# Altium integrated library altera.IntLib: 68 symbols (part 4 of 6)
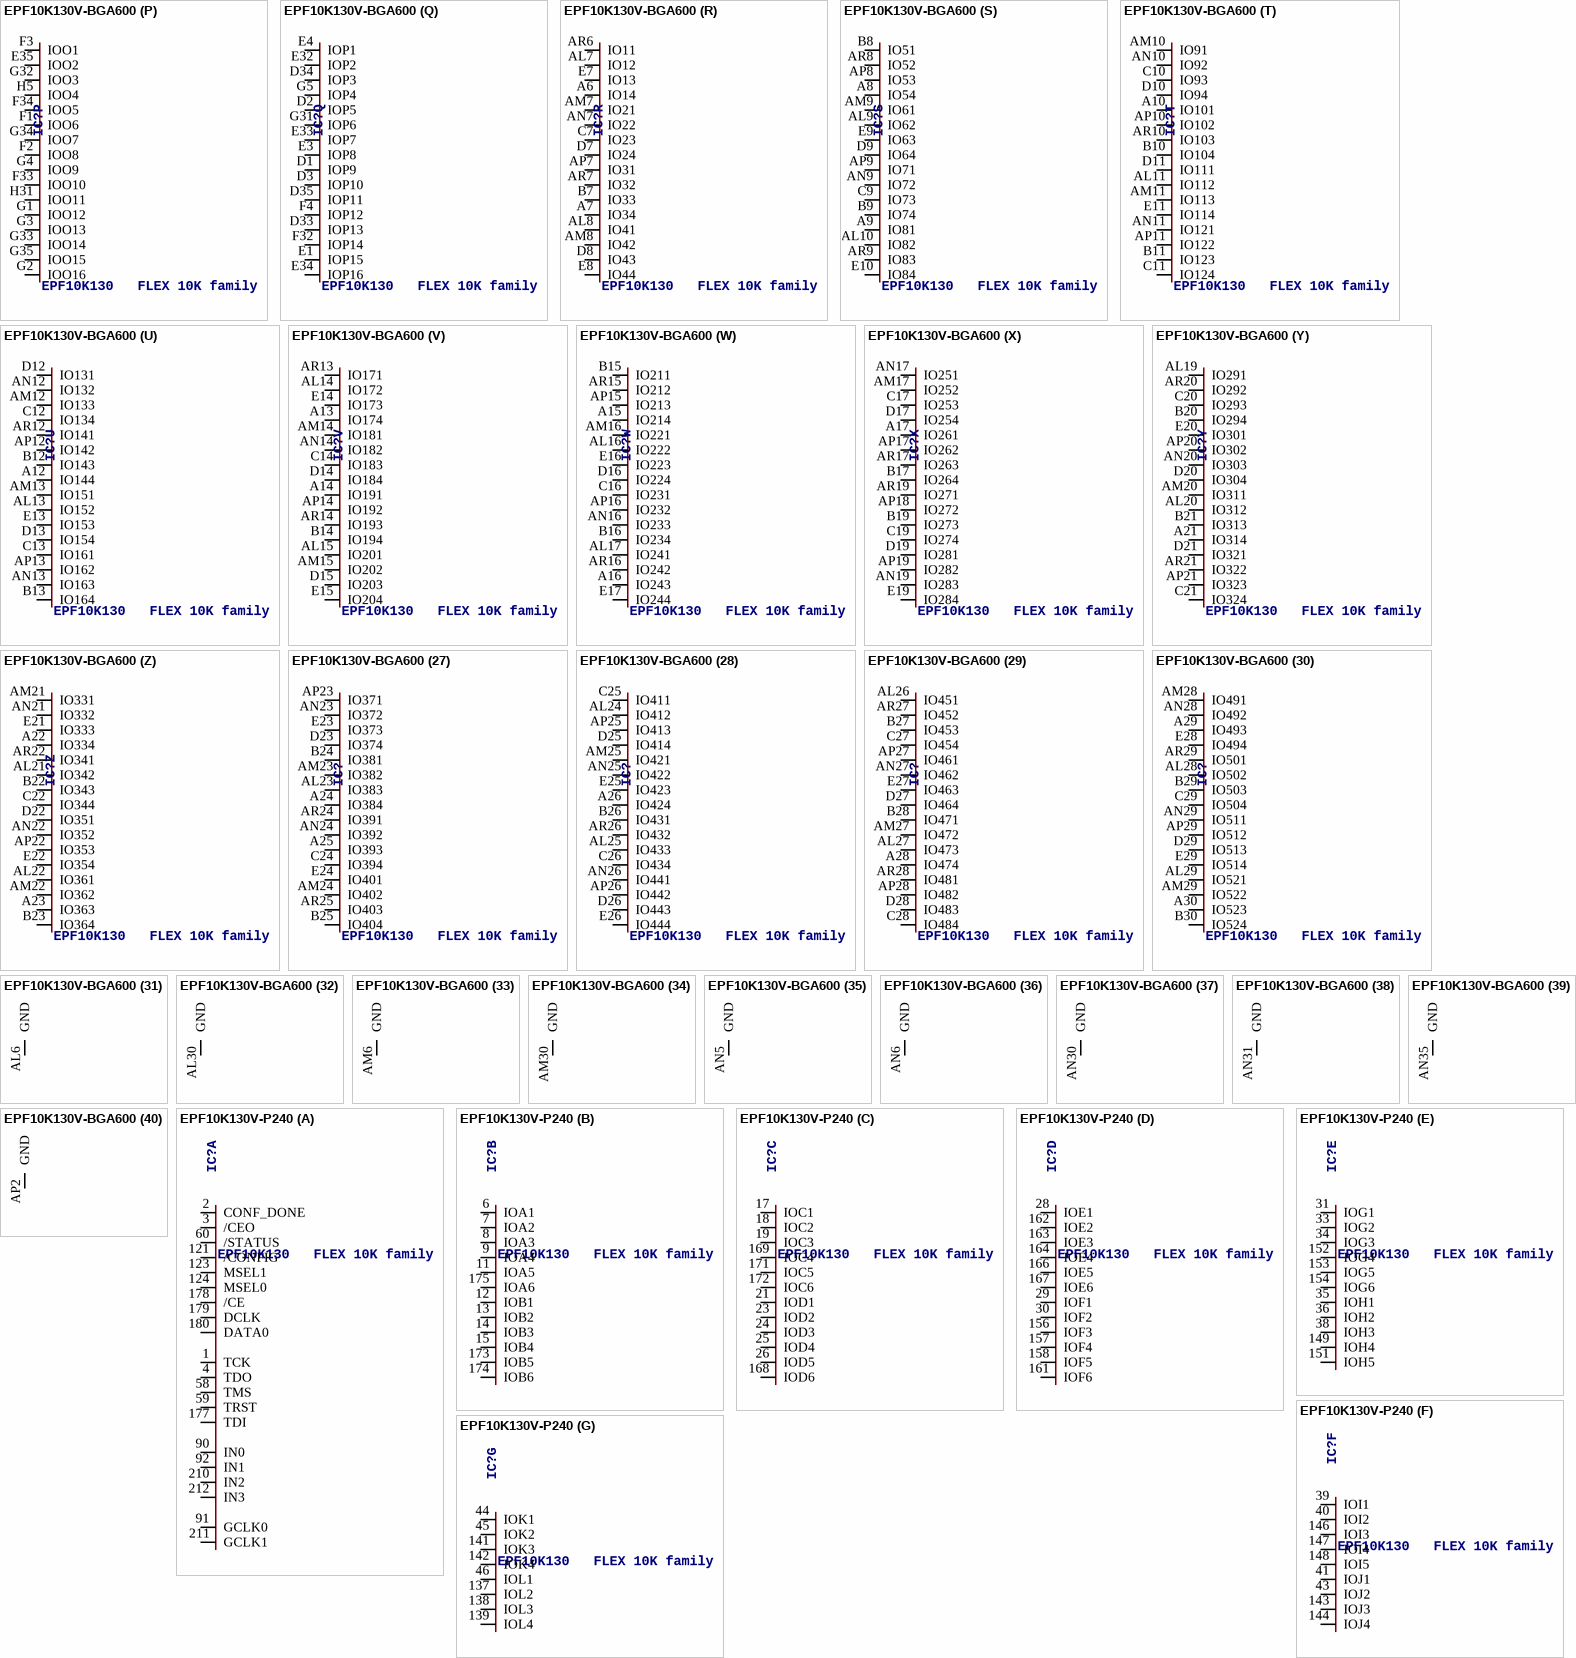
[diagram p60: symbols EPF10K130V-BGA600 to EPF10K130V-P240]

## EPF10K130V-BGA600
designator IC?, comment EPF10K130   FLEX 10K family
OC_FARNELL: unknown; OC_NEWARK: unknown
footprint BGA600
part A pins: AL18 GCLK1, AL31 TCK, AM4 DATA0, AM18 IN1, AM32 CONF_DONE, AN1 TDI, AN2 /CE, AN18 IN0, AN34 TDO, AP1 DCLK, AP35 /CEO, C1 MSEL1, C18 IN2, C34 TRST, C35 TMS, D4 /CONFIG, D18 IN3, D32 /STATUS, E18 GCLK0, F5 MSEL0
part B pins: AJ5 IOA11, AJ31 IOA8, AK4 IOA9, AK5 IOA2, AK32 IOA10, AL2 IOA1, AL4 IOA13, AL32 IOA3, AL33 IOA4, AL34 IOA14, AM1 IOA5, AM2 IOA15, AM3 IOA6, AM33 IOA16, AM34 IOA7, AM35 IOA12
part C pins: AH5 IOB13, AH31 IOB12, AJ2 IOB1, AJ3 IOB3, AJ4 IOB6, AJ32 IOB9, AJ33 IOB2, AJ34 IOB4, AJ35 IOB15, AK1 IOB11, AK2 IOB5, AK3 IOB16, AK33 IOB14, AK34 IOB10, AL1 IOB7, AL35 IOB8
part D pins: AG2 IOC1, AG3 IOC3, AG4 IOC11, AG31 IOC14, AG32 IOC2, AG33 IOC4, AG34 IOC15, AH1 IOC5, AH2 IOC13, AH3 IOC6, AH4 IOC16, AH32 IOC10, AH33 IOC7, AH34 IOC12, AH35 IOC8, AJ1 IOC9
part E pins: AE3 IOD10, AE5 IOD1, AE31 IOD11, AE32 IOD2, AE33 IOD9, AF1 IOD12, AF2 IOD3, AF3 IOD14, AF4 IOD5, AF5 IOD6, AF31 IOD7, AF33 IOD8, AF34 IOD13, AF35 IOD4, AG1 IOD16, AG35 IOD15
part F pins: AC5 IOE1, AC31 IOE6, AC32 IOE11, AD1 IOE3, AD2 IOE12, AD3 IOE4, AD4 IOE14, AD5 IOE7, AD31 IOE10, AD32 IOE13, AD33 IOE5, AD34 IOE2, AE1 IOE16, AE2 IOE8, AE34 IOE9, AE35 IOE15
part G pins: AB1 IOF9, AB2 IOF1, AB3 IOF12, AB4 IOF3, AB31 IOF13, AB32 IOF4, AB33 IOF10, AB34 IOF2, AB35 IOF11, AC1 IOF14, AC2 IOF5, AC3 IOF15, AC4 IOF6, AC33 IOF7, AC34 IOF16, AC35 IOF8
part H pins: AA1 IOG7, AA2 IOG14, AA3 IOG3, AA4 IOG16, AA5 IOG8, AA31 IOG9, AA32 IOG15, AA34 IOG4, AA35 IOG13, Y3 IOG6, Y4 IOG1, Y5 IOG12, Y31 IOG10, Y32 IOG11, Y33 IOG2, Y34 IOG5
part I pins: V4 IOH2, V5 IOH4, V31 IOH7, V33 IOH1, W1 IOH3, W2 IOH5, W3 IOH10, W4 IOH11, W5 IOH16, W31 IOH15, W32 IOH14, W33 IOH8, W34 IOH6, W35 IOH9, Y1 IOH12, Y35 IOH13
part J pins: T5 IOI2, T31 IOI1, U1 IOI3, U2 IOI6, U4 IOI9, U5 IOI7, U31 IOI11, U32 IOI13, U33 IOI10, U34 IOI5, U35 IOI4, V1 IOI8, V2 IOI14, V3 IOI15, V34 IOI16, V35 IOI12
part K pins: R2 IOJ9, R3 IOJ14, R4 IOJ11, R5 IOJ2, R31 IOJ12, R32 IOJ3, R33 IOJ10, R34 IOJ15, R35 IOJ8, T1 IOJ13, T2 IOJ4, T3 IOJ1, T4 IOJ5, T32 IOJ6, T33 IOJ16, T34 IOJ7
part L pins: N3 IOK8, N4 IOK7, N5 IOK2, N31 IOK9, N32 IOK10, N33 IOK1, P1 IOK11, P2 IOK5, P3 IOK13, P4 IOK4, P31 IOK15, P32 IOK6, P33 IOK16, P34 IOK3, P35 IOK12, R1 IOK14
part M pins: L1 IOL9, L2 IOL2, L34 IOL1, L35 IOL10, M1 IOL11, M3 IOL4, M4 IOL12, M5 IOL7, M31 IOL14, M32 IOL5, M33 IOL13, M34 IOL3, M35 IOL8, N1 IOL6, N2 IOL15, N35 IOL16
part N pins: J1 IOM8, J35 IOM10, K1 IOM4, K2 IOM11, K3 IOM2, K4 IOM7, K31 IOM1, K33 IOM9, K34 IOM12, K35 IOM3, L3 IOM13, L4 IOM14, L5 IOM6, L31 IOM5, L32 IOM15, L33 IOM16
part O pins: H2 ION8, H3 ION3, H4 ION1, H32 ION10, H33 ION2, H34 ION12, H35 ION4, J2 ION5, J3 ION13, J4 ION6, J5 ION9, J31 ION11, J32 ION14, J33 ION7, J34 ION16, K5 ION15
part P pins: E35 IOO2, F1 IOO6, F2 IOO8, F3 IOO1, F33 IOO10, F34 IOO5, G1 IOO12, G2 IOO16, G3 IOO13, G4 IOO9, G32 IOO3, G33 IOO14, G34 IOO7, G35 IOO15, H5 IOO4, H31 IOO11
part Q pins: D1 IOP9, D2 IOP5, D3 IOP10, D33 IOP13, D34 IOP3, D35 IOP11, E1 IOP15, E3 IOP8, E4 IOP1, E32 IOP2, E33 IOP7, E34 IOP16, F4 IOP12, F32 IOP14, G5 IOP4, G31 IOP6
part R pins: A6 IO14, A7 IO34, AL7 IO12, AL8 IO41, AM7 IO21, AM8 IO42, AN7 IO22, AP7 IO31, AR6 IO11, AR7 IO32, B7 IO33, C7 IO23, D7 IO24, D8 IO43, E7 IO13, E8 IO44
part S pins: A8 IO54, A9 IO81, AL9 IO62, AL10 IO82, AM9 IO61, AN9 IO72, AP8 IO53, AP9 IO71, AR8 IO52, AR9 IO83, B8 IO51, B9 IO74, C9 IO73, D9 IO64, E9 IO63, E10 IO84
part T pins: A10 IO101, AL11 IO112, AM10 IO91, AM11 IO113, AN10 IO92, AN11 IO121, AP10 IO102, AP11 IO122, AR10 IO103, B10 IO104, B11 IO123, C10 IO93, C11 IO124, D10 IO94, D11 IO111, E11 IO114
part U pins: A12 IO144, AL13 IO152, AM12 IO133, AM13 IO151, AN12 IO132, AN13 IO163, AP12 IO142, AP13 IO162, AR12 IO141, B12 IO143, B13 IO164, C12 IO134, C13 IO161, D12 IO131, D13 IO154, E13 IO153
part V pins: A13 IO174, A14 IO191, AL14 IO172, AL15 IO201, AM14 IO181, AM15 IO202, AN14 IO182, AP14 IO192, AR13 IO171, AR14 IO193, B14 IO194, C14 IO183, D14 IO184, D15 IO203, E14 IO173, E15 IO204
part W pins: A15 IO214, A16 IO243, AL16 IO222, AL17 IO241, AM16 IO221, AN16 IO233, AP15 IO213, AP16 IO232, AR15 IO212, AR16 IO242, B15 IO211, B16 IO234, C16 IO231, D16 IO224, E16 IO223, E17 IO244
part X pins: A17 IO261, AM17 IO252, AN17 IO251, AN19 IO283, AP17 IO262, AP18 IO272, AP19 IO282, AR17 IO263, AR19 IO271, B17 IO264, B19 IO273, C17 IO253, C19 IO274, D17 IO254, D19 IO281, E19 IO284
part Y pins: A21 IO314, AL19 IO291, AL20 IO312, AM20 IO311, AN20 IO303, AP20 IO302, AP21 IO323, AR20 IO292, AR21 IO322, B20 IO294, B21 IO313, C20 IO293, C21 IO324, D20 IO304, D21 IO321, E20 IO301
part Z pins: A22 IO334, A23 IO363, AL21 IO342, AL22 IO361, AM21 IO331, AM22 IO362, AN21 IO332, AN22 IO352, AP22 IO353, AR22 IO341, B22 IO343, B23 IO364, C22 IO344, D22 IO351, E21 IO333, E22 IO354
part 27 pins: A24 IO384, A25 IO393, AL23 IO383, AM23 IO382, AM24 IO402, AN23 IO372, AN24 IO392, AP23 IO371, AR24 IO391, AR25 IO403, B24 IO381, B25 IO404, C24 IO394, D23 IO374, E23 IO373, E24 IO401
part 28 pins: A26 IO424, AL24 IO412, AL25 IO433, AM25 IO421, AN25 IO422, AN26 IO441, AP25 IO413, AP26 IO442, AR26 IO432, B26 IO431, C25 IO411, C26 IO434, D25 IO414, D26 IO443, E25 IO423, E26 IO444
part 29 pins: A28 IO474, AL26 IO451, AL27 IO473, AM27 IO472, AN27 IO462, AP27 IO461, AP28 IO482, AR27 IO452, AR28 IO481, B27 IO453, B28 IO471, C27 IO454, C28 IO484, D27 IO464, D28 IO483, E27 IO463
part 30 pins: A29 IO493, A30 IO523, AL28 IO502, AL29 IO521, AM28 IO491, AM29 IO522, AN28 IO492, AN29 IO511, AP29 IO512, AR29 IO501, B29 IO503, B30 IO524, C29 IO504, D29 IO513, E28 IO494, E29 IO514
part 31 pins: AL6 GND (power)
part 32 pins: AL30 GND (power)
part 33 pins: AM6 GND (power)
part 34 pins: AM30 GND (power)
part 35 pins: AN5 GND (power)
part 36 pins: AN6 GND (power)
part 37 pins: AN30 GND (power)
part 38 pins: AN31 GND (power)
part 39 pins: AN35 GND (power)
part 40 pins: AP2 GND (power)
part 41 pins: AP3 GND (power)
part 42 pins: AP4 GND (power)
part 43 pins: AP5 GND (power)
part 44 pins: AP6 GND (power)
part 45 pins: AP30 GND (power)
part 46 pins: AP31 GND (power)
part 47 pins: AP32 GND (power)
part 48 pins: AP33 GND (power)
part 49 pins: AR1 GND (power)
part 50 pins: AR2 GND (power)
part 51 pins: AR3 GND (power)
part 52 pins: AR4 GND (power)
part 53 pins: AR5 GND (power)
part 54 pins: AR30 GND (power)
part 55 pins: AR31 GND (power)
part 56 pins: AR32 GND (power)
part 57 pins: AR33 GND (power)
part 58 pins: AR34 GND (power)
part 59 pins: AR35 GND (power)
part 60 pins: A1 GND (power)
part 61 pins: A2 GND (power)
part 62 pins: A3 GND (power)
part 63 pins: A4 GND (power)
part 64 pins: A5 GND (power)
part 65 pins: A18 GND (power)
part 66 pins: A31 GND (power)
part 67 pins: A32 GND (power)
part 68 pins: A33 GND (power)
part 69 pins: A34 GND (power)
part 70 pins: A35 GND (power)
part 71 pins: B2 GND (power)
part 72 pins: B3 GND (power)
part 73 pins: B4 GND (power)
part 74 pins: B5 GND (power)
part 75 pins: B6 GND (power)
part 76 pins: B31 GND (power)
part 77 pins: B32 GND (power)
part 78 pins: B33 GND (power)
part 79 pins: B34 GND (power)
part 80 pins: B35 GND (power)
part 81 pins: C5 GND (power)
part 82 pins: C6 GND (power)
part 83 pins: C30 GND (power)
part 84 pins: C31 GND (power)
part 85 pins: D6 GND (power)
part 86 pins: D30 GND (power)
part 87 pins: E6 GND (power)
part 88 pins: E30 GND (power)
part 89 pins: AA33 VCC (power)
part 90 pins: AB5 VCC (power)
part 91 pins: AD35 VCC (power)
part 92 pins: AE4 VCC (power)
part 93 pins: AF32 VCC (power)
part 94 pins: AG5 VCC (power)
part 95 pins: AK31 VCC (power)
part 96 pins: AK35 VCC (power)
part 97 pins: AL3 VCC (power)
part 98 pins: AP24 VCC (power)
part 99 pins: AR11 VCC (power)
part 100 pins: AR18 VCC (power)
part 101 pins: A11 VCC (power)
part 102 pins: A19 VCC (power)
part 103 pins: B1 VCC (power)
part 104 pins: B18 VCC (power)
part 105 pins: D24 VCC (power)
part 106 pins: E2 VCC (power)
part 107 pins: F31 VCC (power)
part 108 pins: F35 VCC (power)
part 109 pins: H1 VCC (power)
part 110 pins: K32 VCC (power)
part 111 pins: M2 VCC (power)
part 112 pins: N34 VCC (power)
part 113 pins: P5 VCC (power)
part 114 pins: T35 VCC (power)
part 115 pins: U3 VCC (power)
part 116 pins: V32 VCC (power)
part 117 pins: Y2 VCC (power)
part 118 pins: AL5 VCCIO (power)
part 119 pins: AL12 VCCIO (power)
part 120 pins: AM5 VCCIO (power)
part 121 pins: AM19 VCCIO (power)
part 122 pins: AM26 VCCIO (power)
part 123 pins: AM31 VCCIO (power)
part 124 pins: AN3 VCCIO (power)
part 125 pins: AN4 VCCIO (power)
part 126 pins: AN8 VCCIO (power)
part 127 pins: AN15 VCCIO (power)
part 128 pins: AN32 VCCIO (power)
part 129 pins: AN33 VCCIO (power)
part 130 pins: AP34 VCCIO (power)
part 131 pins: AR23 VCCIO (power)
part 132 pins: A20 VCCIO (power)
part 133 pins: A27 VCCIO (power)
part 134 pins: C2 VCCIO (power)
part 135 pins: C3 VCCIO (power)
part 136 pins: C4 VCCIO (power)
part 137 pins: C8 VCCIO (power)
part 138 pins: C15 VCCIO (power)
part 139 pins: C23 VCCIO (power)
part 140 pins: C32 VCCIO (power)
part 141 pins: C33 VCCIO (power)
part 142 pins: D5 VCCIO (power)
part 143 pins: D31 VCCIO (power)
part 144 pins: E5 VCCIO (power)
part 145 pins: E12 VCCIO (power)
part 146 pins: E31 VCCIO (power)

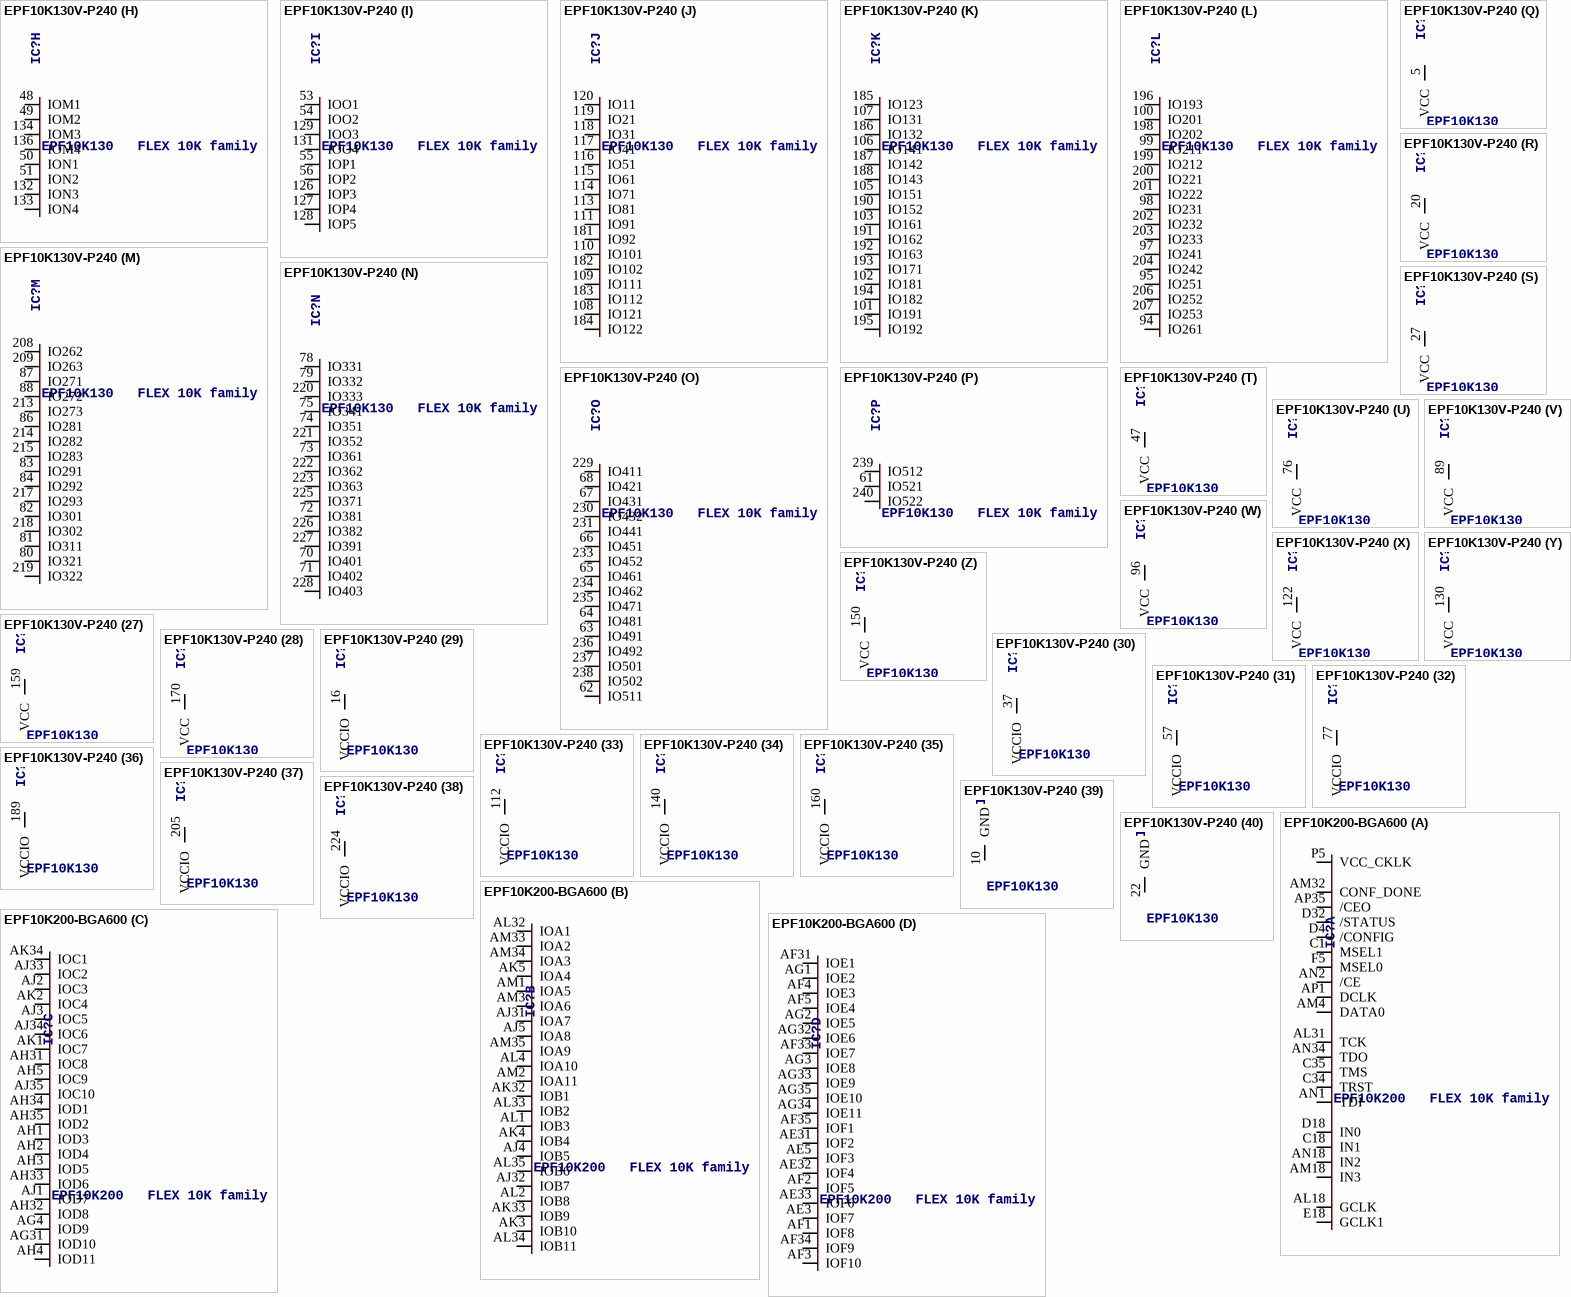
[diagram p28: symbols EPF10K130V-P240 to EPF10K200-BGA600]

## EPF10K130V-P240
designator IC?, comment EPF10K130   FLEX 10K family
OC_FARNELL: unknown; OC_NEWARK: unknown
footprint PQFP240
part A pins: 1 TCK, 2 CONF_DONE, 3 /CEO, 4 TDO, 58 TMS, 59 TRST, 60 /STATUS, 90 IN0, 91 GCLK0, 92 IN1, 121 /CONFIG, 123 MSEL1, 124 MSEL0, 177 TDI, 178 /CE, 179 DCLK, 180 DATA0, 210 IN2, 211 GCLK1, 212 IN3
part B pins: 6 IOA1, 7 IOA2, 8 IOA3, 9 IOA4, 11 IOA5, 12 IOB1, 13 IOB2, 14 IOB3, 15 IOB4, 173 IOB5, 174 IOB6, 175 IOA6
part C pins: 17 IOC1, 18 IOC2, 19 IOC3, 21 IOD1, 23 IOD2, 24 IOD3, 25 IOD4, 26 IOD5, 168 IOD6, 169 IOC4, 171 IOC5, 172 IOC6
part D pins: 28 IOE1, 29 IOF1, 30 IOF2, 156 IOF3, 157 IOF4, 158 IOF5, 161 IOF6, 162 IOE2, 163 IOE3, 164 IOE4, 166 IOE5, 167 IOE6
part E pins: 31 IOG1, 33 IOG2, 34 IOG3, 35 IOH1, 36 IOH2, 38 IOH3, 149 IOH4, 151 IOH5, 152 IOG4, 153 IOG5, 154 IOG6
part F pins: 39 IOI1, 40 IOI2, 41 IOJ1, 43 IOJ2, 143 IOJ3, 144 IOJ4, 146 IOI3, 147 IOI4, 148 IOI5
part G pins: 44 IOK1, 45 IOK2, 46 IOL1, 137 IOL2, 138 IOL3, 139 IOL4, 141 IOK3, 142 IOK4
part H pins: 48 IOM1, 49 IOM2, 50 ION1, 51 ION2, 132 ION3, 133 ION4, 134 IOM3, 136 IOM4
part I pins: 53 IOO1, 54 IOO2, 55 IOP1, 56 IOP2, 126 IOP3, 127 IOP4, 128 IOP5, 129 IOO3, 131 IOO4
part J pins: 108 IO121, 109 IO111, 110 IO101, 111 IO91, 113 IO81, 114 IO71, 115 IO61, 116 IO51, 117 IO41, 118 IO31, 119 IO21, 120 IO11, 181 IO92, 182 IO102, 183 IO112, 184 IO122
part K pins: 101 IO191, 102 IO181, 103 IO161, 105 IO151, 106 IO141, 107 IO131, 185 IO123, 186 IO132, 187 IO142, 188 IO143, 190 IO152, 191 IO162, 192 IO163, 193 IO171, 194 IO182, 195 IO192
part L pins: 94 IO261, 95 IO251, 97 IO241, 98 IO231, 99 IO211, 100 IO201, 196 IO193, 198 IO202, 199 IO212, 200 IO221, 201 IO222, 202 IO232, 203 IO233, 204 IO242, 206 IO252, 207 IO253
part M pins: 80 IO321, 81 IO311, 82 IO301, 83 IO291, 84 IO292, 86 IO281, 87 IO271, 88 IO272, 208 IO262, 209 IO263, 213 IO273, 214 IO282, 215 IO283, 217 IO293, 218 IO302, 219 IO322
part N pins: 70 IO401, 71 IO402, 72 IO381, 73 IO361, 74 IO351, 75 IO341, 78 IO331, 79 IO332, 220 IO333, 221 IO352, 222 IO362, 223 IO363, 225 IO371, 226 IO382, 227 IO391, 228 IO403
part O pins: 62 IO511, 63 IO491, 64 IO481, 65 IO461, 66 IO451, 67 IO431, 68 IO421, 229 IO411, 230 IO432, 231 IO441, 233 IO452, 234 IO462, 235 IO471, 236 IO492, 237 IO501, 238 IO502
part P pins: 61 IO521, 239 IO512, 240 IO522
part Q pins: 5 VCC (power)
part R pins: 20 VCC (power)
part S pins: 27 VCC (power)
part T pins: 47 VCC (power)
part U pins: 76 VCC (power)
part V pins: 89 VCC (power)
part W pins: 96 VCC (power)
part X pins: 122 VCC (power)
part Y pins: 130 VCC (power)
part Z pins: 150 VCC (power)
part 27 pins: 159 VCC (power)
part 28 pins: 170 VCC (power)
part 29 pins: 16 VCCIO (power)
part 30 pins: 37 VCCIO (power)
part 31 pins: 57 VCCIO (power)
part 32 pins: 77 VCCIO (power)
part 33 pins: 112 VCCIO (power)
part 34 pins: 140 VCCIO (power)
part 35 pins: 160 VCCIO (power)
part 36 pins: 189 VCCIO (power)
part 37 pins: 205 VCCIO (power)
part 38 pins: 224 VCCIO (power)
part 39 pins: 10 GND (power)
part 40 pins: 22 GND (power)
part 41 pins: 32 GND (power)
part 42 pins: 42 GND (power)
part 43 pins: 52 GND (power)
part 44 pins: 69 GND (power)
part 45 pins: 85 GND (power)
part 46 pins: 93 GND (power)
part 47 pins: 104 GND (power)
part 48 pins: 125 GND (power)
part 49 pins: 135 GND (power)
part 50 pins: 145 GND (power)
part 51 pins: 155 GND (power)
part 52 pins: 165 GND (power)
part 53 pins: 176 GND (power)
part 54 pins: 197 GND (power)
part 55 pins: 216 GND (power)
part 56 pins: 232 GND (power)

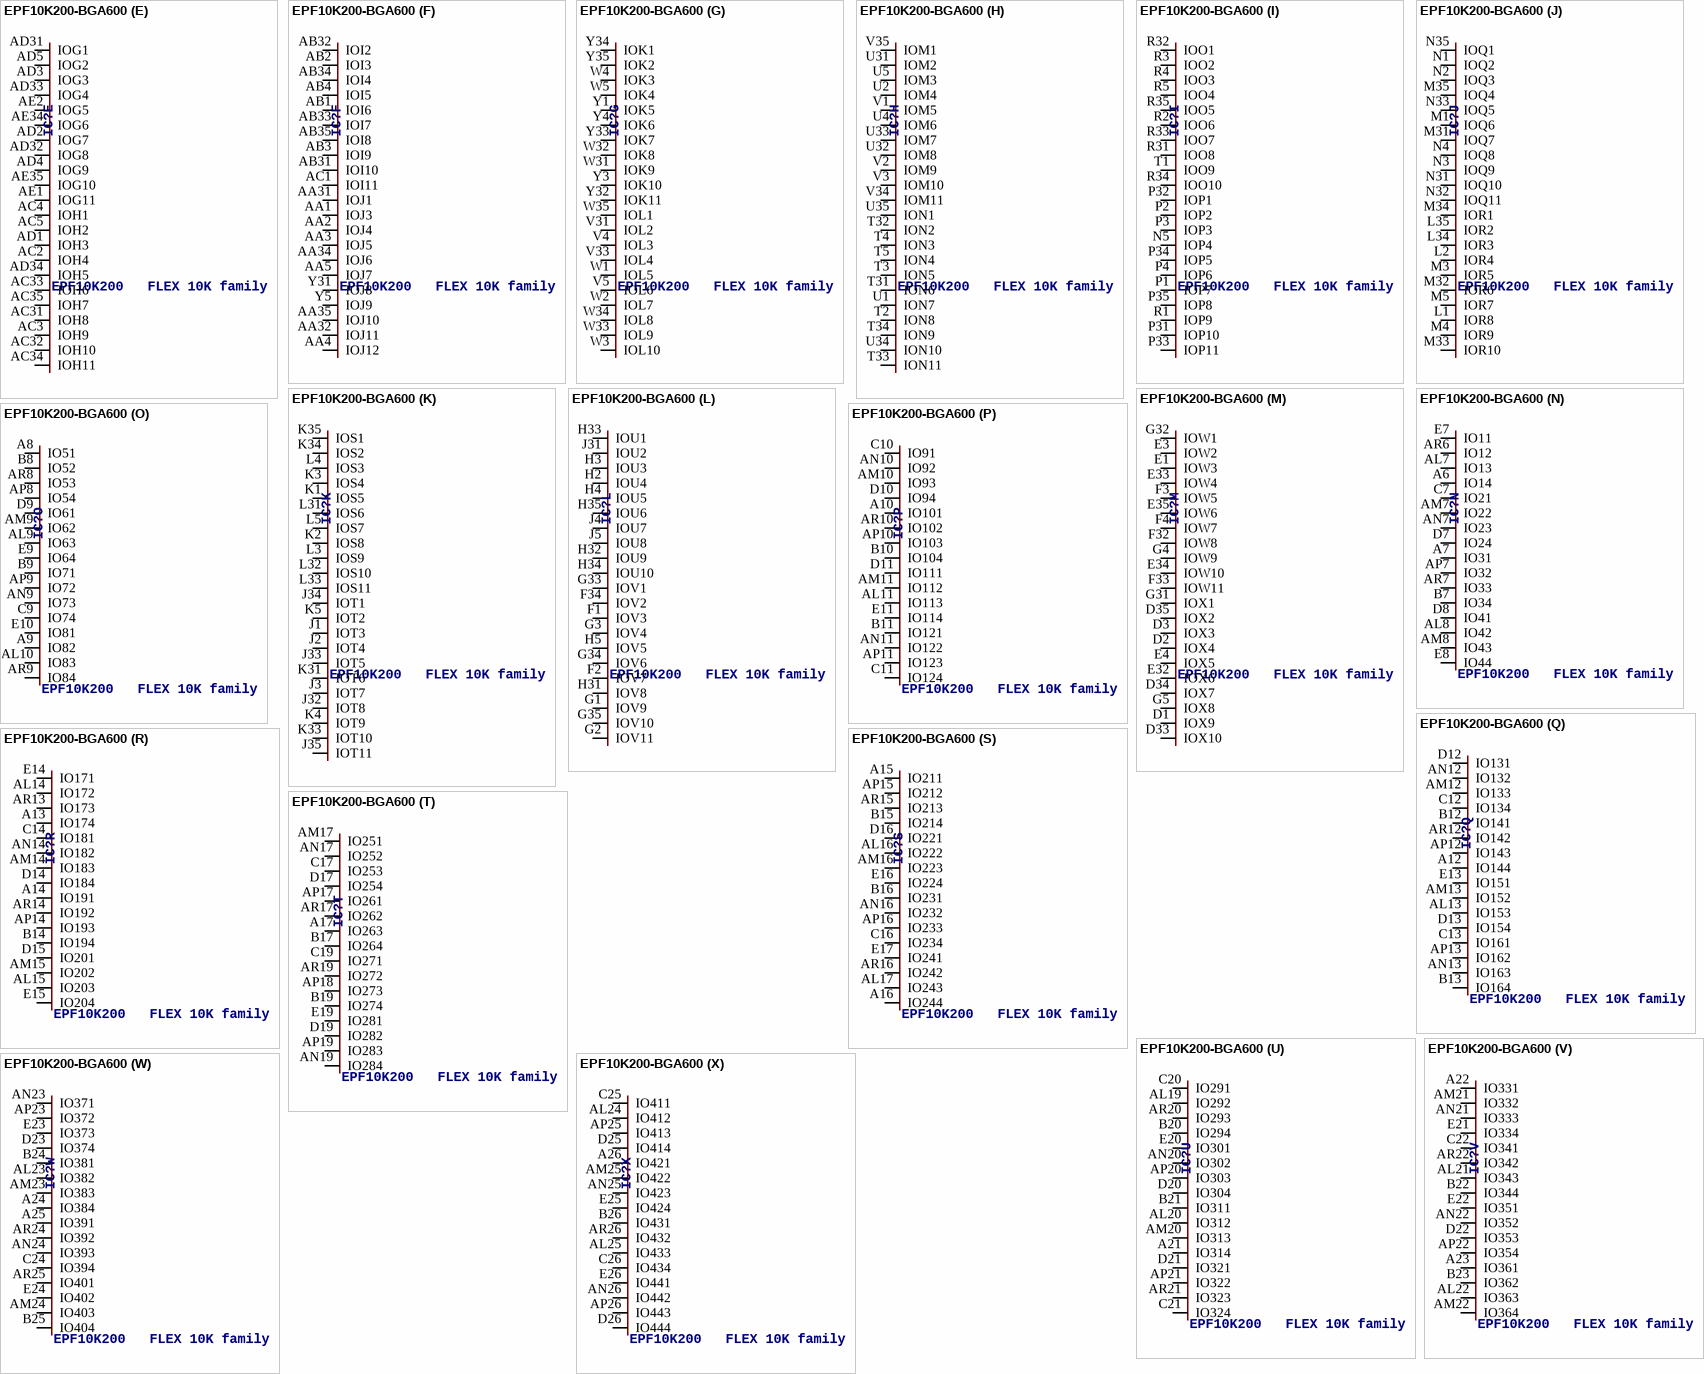
[diagram p29: symbol EPF10K200-BGA600]

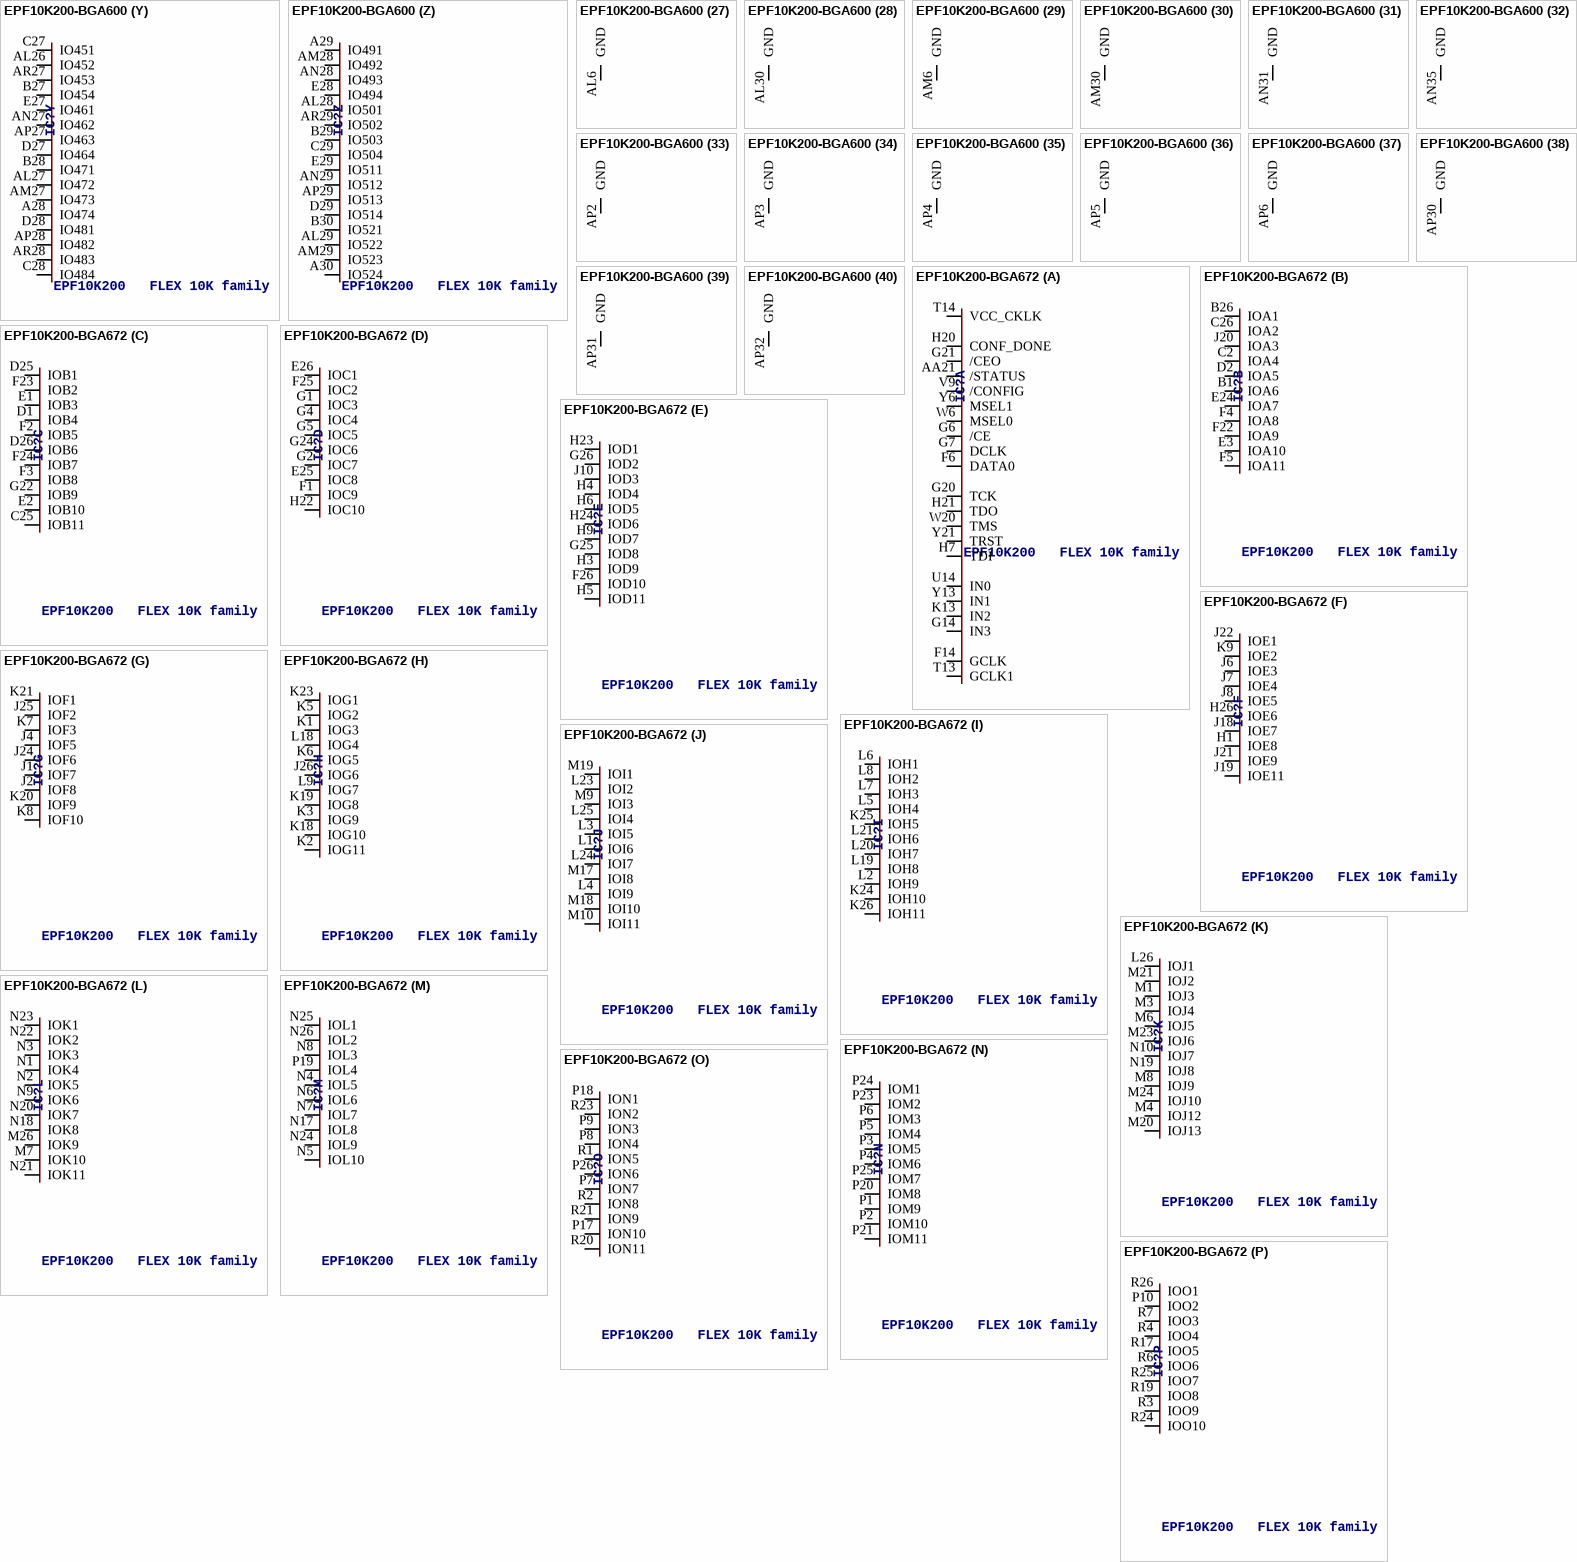
[diagram p30: symbols EPF10K200-BGA600 to EPF10K200-BGA672]

## EPF10K200-BGA600
designator IC?, comment EPF10K200   FLEX 10K family
MPN: EPF10K200EBC600-1; OC_FARNELL: unknown; OC_NEWARK: 51R8896
footprint BGA600
part A pins: AL18 GCLK, AL31 TCK, AM4 DATA0, AM18 IN3, AM32 CONF_DONE, AN1 TDI, AN2 /CE, AN18 IN2, AN34 TDO, AP1 DCLK, AP35 /CEO, C1 MSEL1, C18 IN1, C34 TRST, C35 TMS, D4 /CONFIG, D18 IN0, D32 /STATUS, E18 GCLK1, F5 MSEL0, P5 VCC_CKLK
part B pins: AJ4 IOB5, AJ5 IOA8, AJ31 IOA7, AJ32 IOB7, AK3 IOB10, AK4 IOB4, AK5 IOA4, AK32 IOB1, AK33 IOB9, AL1 IOB3, AL2 IOB8, AL4 IOA10, AL32 IOA1, AL33 IOB2, AL34 IOB11, AL35 IOB6, AM1 IOA5, AM2 IOA11, AM3 IOA6, AM33 IOA2, AM34 IOA3, AM35 IOA9
part C pins: AG4 IOD9, AG31 IOD10, AH1 IOD3, AH2 IOD4, AH3 IOD5, AH4 IOD11, AH5 IOC9, AH31 IOC8, AH32 IOD8, AH33 IOD6, AH34 IOD1, AH35 IOD2, AJ1 IOD7, AJ2 IOC3, AJ3 IOC5, AJ33 IOC2, AJ34 IOC6, AJ35 IOC10, AK1 IOC7, AK2 IOC4, AK34 IOC1
part D pins: AE3 IOF7, AE5 IOF3, AE31 IOF2, AE32 IOF4, AE33 IOF6, AF1 IOF8, AF2 IOF5, AF3 IOF10, AF4 IOE3, AF5 IOE4, AF31 IOE1, AF33 IOE7, AF34 IOF9, AF35 IOF1, AG1 IOE2, AG2 IOE5, AG3 IOE8, AG32 IOE6, AG33 IOE9, AG34 IOE11, AG35 IOE10
part E pins: AC2 IOH4, AC3 IOH9, AC4 IOH1, AC5 IOH2, AC31 IOH8, AC32 IOH10, AC33 IOH6, AC34 IOH11, AC35 IOH7, AD1 IOH3, AD2 IOG7, AD3 IOG3, AD4 IOG9, AD5 IOG2, AD31 IOG1, AD32 IOG8, AD33 IOG4, AD34 IOH5, AE1 IOG11, AE2 IOG5, AE34 IOG6, AE35 IOG10
part F pins: AA1 IOJ3, AA2 IOJ4, AA3 IOJ5, AA4 IOJ12, AA5 IOJ7, AA31 IOJ1, AA32 IOJ11, AA34 IOJ6, AA35 IOJ10, AB1 IOI6, AB2 IOI3, AB3 IOI9, AB4 IOI5, AB31 IOI10, AB32 IOI2, AB33 IOI7, AB34 IOI4, AB35 IOI8, AC1 IOI11, Y5 IOJ9, Y31 IOJ8
part G pins: V4 IOL3, V5 IOL6, V31 IOL2, V33 IOL4, W1 IOL5, W2 IOL7, W3 IOL10, W4 IOK3, W5 IOK4, W31 IOK9, W32 IOK8, W33 IOL9, W34 IOL8, W35 IOL1, Y1 IOK5, Y3 IOK10, Y4 IOK6, Y32 IOK11, Y33 IOK7, Y34 IOK1, Y35 IOK2
part H pins: T2 ION8, T3 ION5, T4 ION3, T5 ION4, T31 ION6, T32 ION2, T33 ION11, T34 ION9, U1 ION7, U2 IOM4, U4 IOM6, U5 IOM3, U31 IOM2, U32 IOM8, U33 IOM7, U34 ION10, U35 ION1, V1 IOM5, V2 IOM9, V3 IOM10, V34 IOM11, V35 IOM1
part I pins: N5 IOP4, P1 IOP7, P2 IOP2, P3 IOP3, P4 IOP6, P31 IOP10, P32 IOP1, P33 IOP11, P34 IOP5, P35 IOP8, R1 IOP9, R2 IOO6, R3 IOO2, R4 IOO3, R5 IOO4, R31 IOO8, R32 IOO1, R33 IOO7, R34 IOO10, R35 IOO5, T1 IOO9
part J pins: L1 IOR8, L2 IOR4, L34 IOR3, L35 IOR2, M1 IOQ6, M3 IOR5, M4 IOR9, M5 IOR7, M31 IOQ7, M32 IOR6, M33 IOR10, M34 IOR1, M35 IOQ4, N1 IOQ2, N2 IOQ3, N3 IOQ9, N4 IOQ8, N31 IOQ10, N32 IOQ11, N33 IOQ5, N35 IOQ1
part K pins: J1 IOT3, J2 IOT4, J3 IOT7, J32 IOT8, J33 IOT5, J34 IOT1, J35 IOT11, K1 IOS5, K2 IOS8, K3 IOS4, K4 IOT9, K5 IOT2, K31 IOT6, K33 IOT10, K34 IOS2, K35 IOS1, L3 IOS9, L4 IOS3, L5 IOS7, L31 IOS6, L32 IOS10, L33 IOS11
part L pins: F1 IOV3, F2 IOV7, F34 IOV2, G1 IOV9, G2 IOV11, G3 IOV4, G33 IOV1, G34 IOV6, G35 IOV10, H2 IOU4, H3 IOU3, H4 IOU5, H5 IOV5, H31 IOV8, H32 IOU9, H33 IOU1, H34 IOU10, H35 IOU6, J4 IOU7, J5 IOU8, J31 IOU2
part M pins: D1 IOX9, D2 IOX4, D3 IOX3, D33 IOX10, D34 IOX7, D35 IOX2, E1 IOW3, E3 IOW2, E4 IOX5, E32 IOX6, E33 IOW4, E34 IOW10, E35 IOW6, F3 IOW5, F4 IOW7, F32 IOW8, F33 IOW11, G4 IOW9, G5 IOX8, G31 IOX1, G32 IOW1
part N pins: A6 IO14, A7 IO31, AL7 IO13, AL8 IO42, AM7 IO22, AM8 IO43, AN7 IO23, AP7 IO32, AR6 IO12, AR7 IO33, B7 IO34, C7 IO21, D7 IO24, D8 IO41, E7 IO11, E8 IO44
part O pins: A8 IO51, A9 IO82, AL9 IO63, AL10 IO83, AM9 IO62, AN9 IO73, AP8 IO54, AP9 IO72, AR8 IO53, AR9 IO84, B8 IO52, B9 IO71, C9 IO74, D9 IO61, E9 IO64, E10 IO81
part P pins: A10 IO101, AL11 IO113, AM10 IO93, AM11 IO112, AN10 IO92, AN11 IO122, AP10 IO103, AP11 IO123, AR10 IO102, B10 IO104, B11 IO121, C10 IO91, C11 IO124, D10 IO94, D11 IO111, E11 IO114
part Q pins: A12 IO144, AL13 IO153, AM12 IO133, AM13 IO152, AN12 IO132, AN13 IO163, AP12 IO143, AP13 IO162, AR12 IO142, B12 IO141, B13 IO164, C12 IO134, C13 IO161, D12 IO131, D13 IO154, E13 IO151
part R pins: A13 IO174, A14 IO191, AL14 IO172, AL15 IO203, AM14 IO183, AM15 IO202, AN14 IO182, AP14 IO193, AR13 IO173, AR14 IO192, B14 IO194, C14 IO181, D14 IO184, D15 IO201, E14 IO171, E15 IO204
part S pins: A15 IO211, A16 IO244, AL16 IO222, AL17 IO243, AM16 IO223, AN16 IO232, AP15 IO212, AP16 IO233, AR15 IO213, AR16 IO242, B15 IO214, B16 IO231, C16 IO234, D16 IO221, E16 IO224, E17 IO241
part T pins: A17 IO263, AM17 IO251, AN17 IO252, AN19 IO284, AP17 IO261, AP18 IO273, AP19 IO283, AR17 IO262, AR19 IO272, B17 IO264, B19 IO274, C17 IO253, C19 IO271, D17 IO254, D19 IO282, E19 IO281
part U pins: A21 IO314, AL19 IO292, AL20 IO312, AM20 IO313, AN20 IO302, AP20 IO303, AP21 IO322, AR20 IO293, AR21 IO323, B20 IO294, B21 IO311, C20 IO291, C21 IO324, D20 IO304, D21 IO321, E20 IO301
part V pins: A22 IO331, A23 IO361, AL21 IO343, AL22 IO363, AM21 IO332, AM22 IO364, AN21 IO333, AN22 IO352, AP22 IO354, AR22 IO342, B22 IO344, B23 IO362, C22 IO341, D22 IO353, E21 IO334, E22 IO351
part W pins: A24 IO384, A25 IO391, AL23 IO382, AM23 IO383, AM24 IO403, AN23 IO371, AN24 IO393, AP23 IO372, AR24 IO392, AR25 IO401, B24 IO381, B25 IO404, C24 IO394, D23 IO374, E23 IO373, E24 IO402
part X pins: A26 IO421, AL24 IO412, AL25 IO433, AM25 IO422, AN25 IO423, AN26 IO442, AP25 IO413, AP26 IO443, AR26 IO432, B26 IO431, C25 IO411, C26 IO434, D25 IO414, D26 IO444, E25 IO424, E26 IO441
part Y pins: A28 IO474, AL26 IO452, AL27 IO472, AM27 IO473, AN27 IO462, AP27 IO463, AP28 IO482, AR27 IO453, AR28 IO483, B27 IO454, B28 IO471, C27 IO451, C28 IO484, D27 IO464, D28 IO481, E27 IO461
part Z pins: A29 IO491, A30 IO524, AL28 IO501, AL29 IO522, AM28 IO492, AM29 IO523, AN28 IO493, AN29 IO512, AP29 IO513, AR29 IO502, B29 IO503, B30 IO521, C29 IO504, D29 IO514, E28 IO494, E29 IO511
part 27 pins: AL6 GND (power)
part 28 pins: AL30 GND (power)
part 29 pins: AM6 GND (power)
part 30 pins: AM30 GND (power)
part 31 pins: AN31 GND (power)
part 32 pins: AN35 GND (power)
part 33 pins: AP2 GND (power)
part 34 pins: AP3 GND (power)
part 35 pins: AP4 GND (power)
part 36 pins: AP5 GND (power)
part 37 pins: AP6 GND (power)
part 38 pins: AP30 GND (power)
part 39 pins: AP31 GND (power)
part 40 pins: AP32 GND (power)
part 41 pins: AP33 GND (power)
part 42 pins: AR1 GND (power)
part 43 pins: AR2 GND (power)
part 44 pins: AR3 GND (power)
part 45 pins: AR4 GND (power)
part 46 pins: AR5 GND (power)
part 47 pins: AR30 GND (power)
part 48 pins: AR31 GND (power)
part 49 pins: AR32 GND (power)
part 50 pins: AR33 GND (power)
part 51 pins: AR34 GND (power)
part 52 pins: AR35 GND (power)
part 53 pins: A1 GND (power)
part 54 pins: A2 GND (power)
part 55 pins: A3 GND (power)
part 56 pins: A4 GND (power)
part 57 pins: A5 GND (power)
part 58 pins: A18 GND (power)
part 59 pins: A31 GND (power)
part 60 pins: A32 GND (power)
part 61 pins: A33 GND (power)
part 62 pins: A34 GND (power)
part 63 pins: A35 GND (power)
part 64 pins: B2 GND (power)
part 65 pins: B3 GND (power)
part 66 pins: B4 GND (power)
part 67 pins: B5 GND (power)
part 68 pins: B6 GND (power)
part 69 pins: B31 GND (power)
part 70 pins: B32 GND (power)
part 71 pins: B33 GND (power)
part 72 pins: B34 GND (power)
part 73 pins: B35 GND (power)
part 74 pins: C5 GND (power)
part 75 pins: C6 GND (power)
part 76 pins: C30 GND (power)
part 77 pins: C31 GND (power)
part 78 pins: D6 GND (power)
part 79 pins: D30 GND (power)
part 80 pins: E6 GND (power)
part 81 pins: E30 GND (power)
part 82 pins: AN5 GND (power)
part 83 pins: AN6 GND (power)
part 84 pins: AN30 GND (power)
part 85 pins: AA33 VCC (power)
part 86 pins: AB5 VCC (power)
part 87 pins: AD35 VCC (power)
part 88 pins: AE4 VCC (power)
part 89 pins: AF32 VCC (power)
part 90 pins: AG5 VCC (power)
part 91 pins: AK31 VCC (power)
part 92 pins: AK35 VCC (power)
part 93 pins: AL3 VCC (power)
part 94 pins: AP24 VCC (power)
part 95 pins: AR11 VCC (power)
part 96 pins: AR18 VCC (power)
part 97 pins: A11 VCC (power)
part 98 pins: A19 VCC (power)
part 99 pins: B1 VCC (power)
part 100 pins: B18 VCC (power)
part 101 pins: D24 VCC (power)
part 102 pins: E2 VCC (power)
part 103 pins: F31 VCC (power)
part 104 pins: F35 VCC (power)
part 105 pins: H1 VCC (power)
part 106 pins: K32 VCC (power)
part 107 pins: M2 VCC (power)
part 108 pins: N34 VCC (power)
part 109 pins: T35 VCC (power)
part 110 pins: U3 VCC (power)
part 111 pins: V32 VCC (power)
part 112 pins: Y2 VCC (power)
part 113 pins: AL5 VCCIO (power)
part 114 pins: AL12 VCCIO (power)
part 115 pins: AM5 VCCIO (power)
part 116 pins: AM19 VCCIO (power)
part 117 pins: AM26 VCCIO (power)
part 118 pins: AM31 VCCIO (power)
part 119 pins: AN3 VCCIO (power)
part 120 pins: AN4 VCCIO (power)
part 121 pins: AN8 VCCIO (power)
part 122 pins: AN15 VCCIO (power)
part 123 pins: AN32 VCCIO (power)
part 124 pins: AN33 VCCIO (power)
part 125 pins: AP34 VCCIO (power)
part 126 pins: AR23 VCCIO (power)
part 127 pins: A20 VCCIO (power)
part 128 pins: A27 VCCIO (power)
part 129 pins: C2 VCCIO (power)
part 130 pins: C3 VCCIO (power)
part 131 pins: C4 VCCIO (power)
part 132 pins: C8 VCCIO (power)
part 133 pins: C15 VCCIO (power)
part 134 pins: C23 VCCIO (power)
part 135 pins: C32 VCCIO (power)
part 136 pins: C33 VCCIO (power)
part 137 pins: D5 VCCIO (power)
part 138 pins: D31 VCCIO (power)
part 139 pins: E5 VCCIO (power)
part 140 pins: E12 VCCIO (power)
part 141 pins: E31 VCCIO (power)

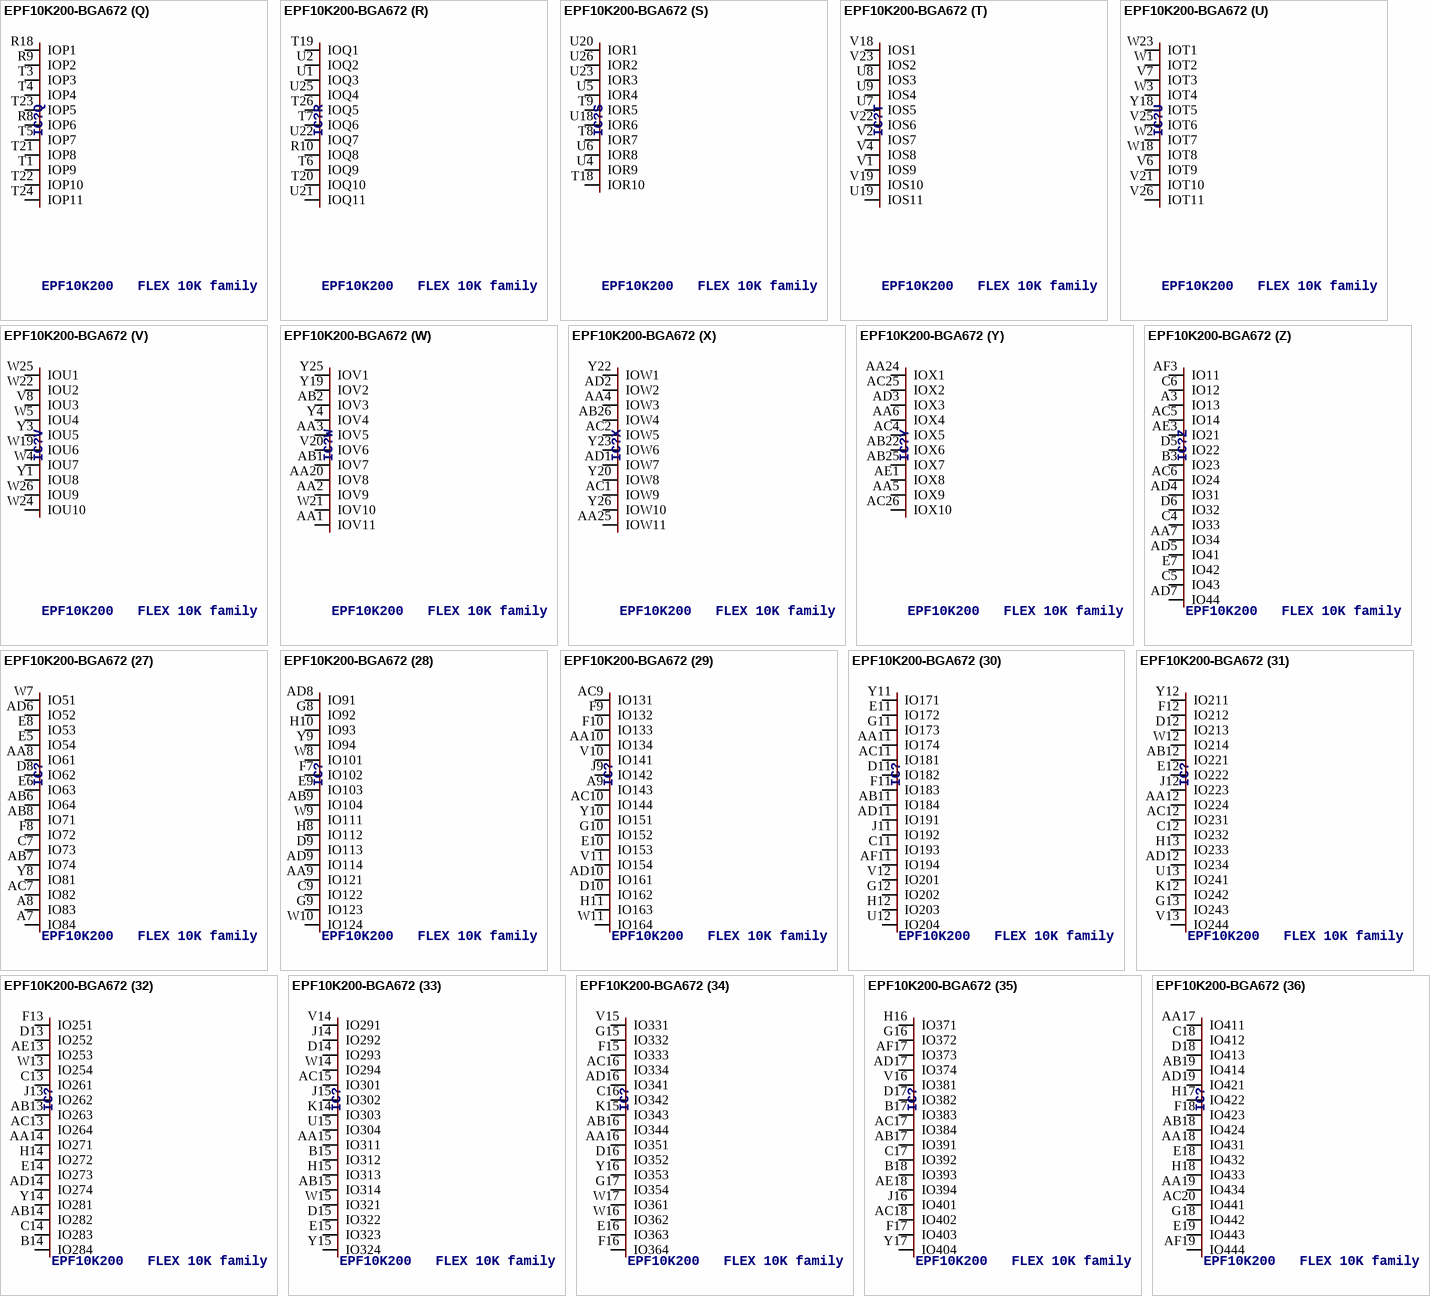
[diagram p31: symbol EPF10K200-BGA672]

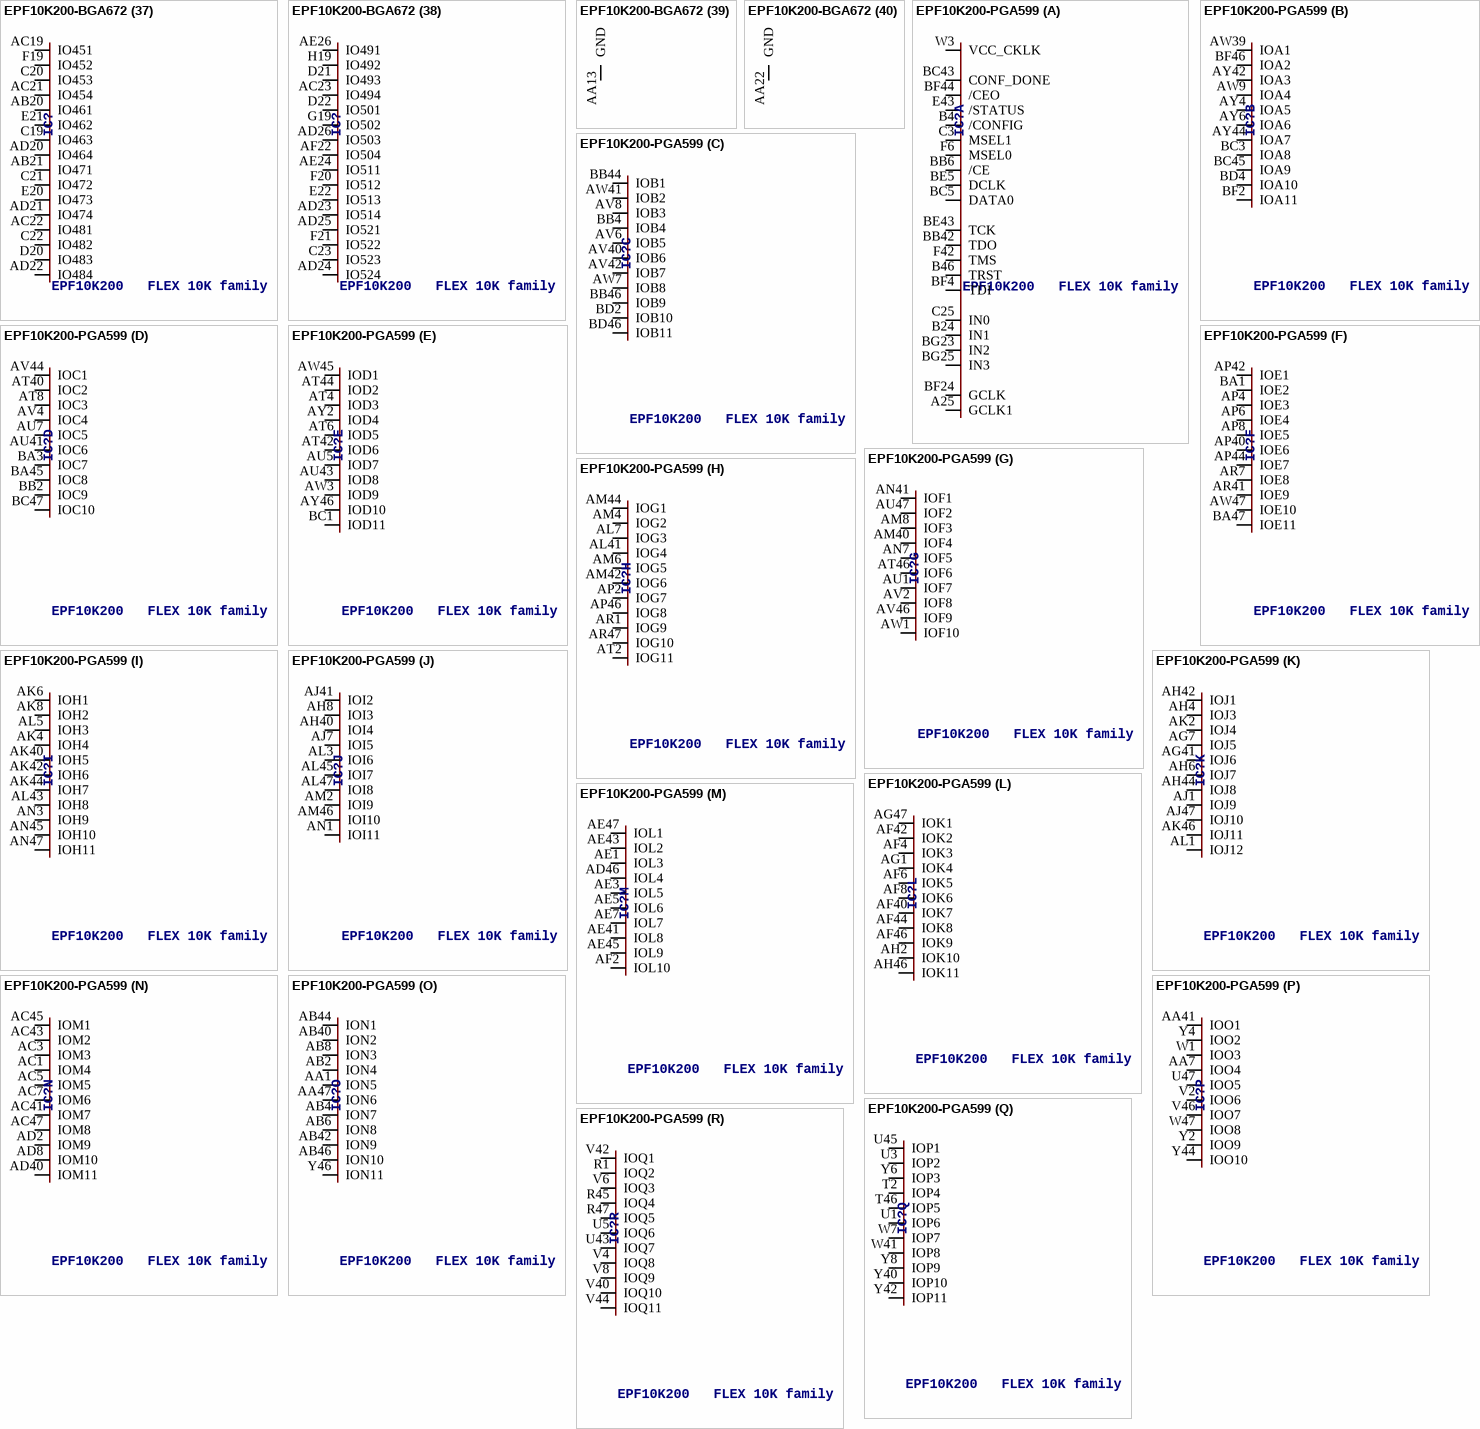
[diagram p32: symbols EPF10K200-BGA672 to EPF10K200-PGA599]

## EPF10K200-BGA672
designator IC?, comment EPF10K200   FLEX 10K family
MPN: EPF10K200EFC672-1; OC_FARNELL: unknown; OC_NEWARK: 51R8900
footprint BGA672
part A pins: AA21 /STATUS, F6 DATA0, F14 GCLK, G6 /CE, G7 DCLK, G14 IN3, G20 TCK, G21 /CEO, H7 TDI, H20 CONF_DONE, H21 TDO, K13 IN2, T13 GCLK1, T14 VCC_CKLK, U14 IN0, V9 /CONFIG, W6 MSEL0, W20 TMS, Y6 MSEL1, Y13 IN1, Y21 TRST
part B pins: B1 IOA6, B26 IOA1, C2 IOA4, C26 IOA2, D2 IOA5, E3 IOA10, E24 IOA7, F4 IOA8, F5 IOA11, F22 IOA9, J20 IOA3
part C pins: C25 IOB11, D1 IOB4, D25 IOB1, D26 IOB6, E1 IOB3, E2 IOB10, F2 IOB5, F3 IOB8, F23 IOB2, F24 IOB7, G22 IOB9
part D pins: E25 IOC8, E26 IOC1, F1 IOC9, F25 IOC2, G1 IOC3, G2 IOC7, G4 IOC4, G5 IOC5, G24 IOC6, H22 IOC10
part E pins: F26 IOD10, G25 IOD8, G26 IOD2, H3 IOD9, H4 IOD4, H5 IOD11, H6 IOD5, H9 IOD7, H23 IOD1, H24 IOD6, J10 IOD3
part F pins: H1 IOE8, H26 IOE6, J6 IOE3, J7 IOE4, J8 IOE5, J18 IOE7, J19 IOE11, J21 IOE9, J22 IOE1, K9 IOE2
part G pins: J1 IOF7, J2 IOF8, J4 IOF5, J24 IOF6, J25 IOF2, K7 IOF3, K8 IOF10, K20 IOF9, K21 IOF1
part H pins: J26 IOG6, K1 IOG3, K2 IOG11, K3 IOG9, K5 IOG2, K6 IOG5, K18 IOG10, K19 IOG8, K23 IOG1, L9 IOG7, L18 IOG4
part I pins: K24 IOH10, K25 IOH5, K26 IOH11, L2 IOH9, L5 IOH4, L6 IOH1, L7 IOH3, L8 IOH2, L19 IOH8, L20 IOH7, L21 IOH6
part J pins: L1 IOI6, L3 IOI5, L4 IOI9, L23 IOI2, L24 IOI7, L25 IOI4, M9 IOI3, M10 IOI11, M17 IOI8, M18 IOI10, M19 IOI1
part K pins: L26 IOJ1, M1 IOJ3, M3 IOJ4, M4 IOJ12, M6 IOJ5, M8 IOJ9, M20 IOJ13, M21 IOJ2, M23 IOJ6, M24 IOJ10, N10 IOJ7, N19 IOJ8
part L pins: M7 IOK10, M26 IOK9, N1 IOK4, N2 IOK5, N3 IOK3, N9 IOK6, N18 IOK8, N20 IOK7, N21 IOK11, N22 IOK2, N23 IOK1
part M pins: N4 IOL5, N5 IOL10, N6 IOL6, N7 IOL7, N8 IOL3, N17 IOL8, N24 IOL9, N25 IOL1, N26 IOL2, P19 IOL4
part N pins: P1 IOM9, P2 IOM10, P3 IOM5, P4 IOM6, P5 IOM4, P6 IOM3, P20 IOM8, P21 IOM11, P23 IOM2, P24 IOM1, P25 IOM7
part O pins: P7 ION7, P8 ION4, P9 ION3, P17 ION10, P18 ION1, P26 ION6, R1 ION5, R2 ION8, R20 ION11, R21 ION9, R23 ION2
part P pins: P10 IOO2, R3 IOO9, R4 IOO4, R6 IOO6, R7 IOO3, R17 IOO5, R19 IOO8, R24 IOO10, R25 IOO7, R26 IOO1
part Q pins: R8 IOP6, R9 IOP2, R18 IOP1, T1 IOP9, T3 IOP3, T4 IOP4, T5 IOP7, T21 IOP8, T22 IOP10, T23 IOP5, T24 IOP11
part R pins: R10 IOQ8, T6 IOQ9, T7 IOQ6, T19 IOQ1, T20 IOQ10, T26 IOQ5, U1 IOQ3, U2 IOQ2, U21 IOQ11, U22 IOQ7, U25 IOQ4
part S pins: T8 IOR7, T9 IOR5, T18 IOR10, U4 IOR9, U5 IOR4, U6 IOR8, U18 IOR6, U20 IOR1, U23 IOR3, U26 IOR2
part T pins: U7 IOS5, U8 IOS3, U9 IOS4, U19 IOS11, V1 IOS9, V2 IOS7, V4 IOS8, V18 IOS1, V19 IOS10, V22 IOS6, V23 IOS2
part U pins: V6 IOT9, V7 IOT3, V21 IOT10, V25 IOT6, V26 IOT11, W1 IOT2, W2 IOT7, W3 IOT4, W18 IOT8, W23 IOT1, Y18 IOT5
part V pins: V8 IOU3, W4 IOU7, W5 IOU4, W19 IOU6, W22 IOU2, W24 IOU10, W25 IOU1, W26 IOU9, Y1 IOU8, Y3 IOU5
part W pins: AA1 IOV11, AA2 IOV9, AA3 IOV5, AA20 IOV8, AB1 IOV7, AB2 IOV3, V20 IOV6, W21 IOV10, Y4 IOV4, Y19 IOV2, Y25 IOV1
part X pins: AA4 IOW3, AA25 IOW11, AB26 IOW4, AC1 IOW9, AC2 IOW5, AD1 IOW7, AD2 IOW2, Y20 IOW8, Y22 IOW1, Y23 IOW6, Y26 IOW10
part Y pins: AA5 IOX9, AA6 IOX4, AA24 IOX1, AB22 IOX6, AB25 IOX7, AC4 IOX5, AC25 IOX2, AC26 IOX10, AD3 IOX3, AE1 IOX8
part Z pins: A3 IO13, AA7 IO34, AC5 IO14, AC6 IO24, AD4 IO31, AD5 IO41, AD7 IO44, AE3 IO21, AF3 IO11, B3 IO23, C4 IO33, C5 IO43, C6 IO12, D5 IO22, D6 IO32, E7 IO42
part 27 pins: A7 IO84, A8 IO83, AA8 IO61, AB6 IO64, AB7 IO74, AB8 IO71, AC7 IO82, AD6 IO52, C7 IO73, D8 IO62, E5 IO54, E6 IO63, E8 IO53, F8 IO72, W7 IO51, Y8 IO81
part 28 pins: AA9 IO121, AB9 IO104, AD8 IO91, AD9 IO114, C9 IO122, D9 IO113, E9 IO103, F7 IO102, G8 IO92, G9 IO123, H8 IO112, H10 IO93, W8 IO101, W9 IO111, W10 IO124, Y9 IO94
part 29 pins: A9 IO143, AA10 IO134, AC9 IO131, AC10 IO144, AD10 IO161, D10 IO162, E10 IO153, F9 IO132, F10 IO133, G10 IO152, H11 IO163, J9 IO142, V10 IO141, V11 IO154, W11 IO164, Y10 IO151
part 30 pins: AA11 IO174, AB11 IO184, AC11 IO181, AD11 IO191, AF11 IO194, C11 IO193, D11 IO182, E11 IO172, F11 IO183, G11 IO173, G12 IO202, H12 IO203, J11 IO192, U12 IO204, V12 IO201, Y11 IO171
part 31 pins: AA12 IO224, AB12 IO221, AC12 IO231, AD12 IO234, C12 IO232, D12 IO213, E12 IO222, F12 IO212, G13 IO243, H13 IO233, J12 IO223, K12 IO242, U13 IO241, V13 IO244, W12 IO214, Y12 IO211
part 32 pins: AA14 IO271, AB13 IO263, AB14 IO282, AC13 IO264, AD14 IO274, AE13 IO253, B14 IO284, C13 IO261, C14 IO283, D13 IO252, E14 IO273, F13 IO251, H14 IO272, J13 IO262, W13 IO254, Y14 IO281
part 33 pins: AA15 IO311, AB15 IO314, AC15 IO301, B15 IO312, D14 IO293, D15 IO322, E15 IO323, H15 IO313, J14 IO292, J15 IO302, K14 IO303, U15 IO304, V14 IO291, W14 IO294, W15 IO321, Y15 IO324
part 34 pins: AA16 IO351, AB16 IO344, AC16 IO334, AD16 IO341, C16 IO342, D16 IO352, E16 IO363, F15 IO333, F16 IO364, G15 IO332, G17 IO354, K15 IO343, V15 IO331, W16 IO362, W17 IO361, Y16 IO353
part 35 pins: AB17 IO391, AC17 IO384, AC18 IO402, AD17 IO374, AE18 IO394, AF17 IO373, B17 IO383, B18 IO393, C17 IO392, D17 IO382, F17 IO403, G16 IO372, H16 IO371, J16 IO401, V16 IO381, Y17 IO404
part 36 pins: AA17 IO411, AA18 IO431, AA19 IO434, AB18 IO424, AB19 IO414, AC20 IO441, AD19 IO421, AF19 IO444, C18 IO412, D18 IO413, E18 IO432, E19 IO443, F18 IO423, G18 IO442, H17 IO422, H18 IO433
part 37 pins: AB20 IO461, AB21 IO471, AC19 IO451, AC21 IO454, AC22 IO481, AD20 IO464, AD21 IO474, AD22 IO484, C19 IO463, C20 IO453, C21 IO472, C22 IO482, D20 IO483, E20 IO473, E21 IO462, F19 IO452
part 38 pins: AC23 IO494, AD23 IO514, AD24 IO524, AD25 IO521, AD26 IO503, AE24 IO511, AE26 IO491, AF22 IO504, C23 IO523, D21 IO493, D22 IO501, E22 IO513, F20 IO512, F21 IO522, G19 IO502, H19 IO492
part 39 pins: AA13 GND (power)
part 40 pins: AA22 GND (power)
part 41 pins: AB3 GND (power)
part 42 pins: AB4 GND (power)
part 43 pins: AB5 GND (power)
part 44 pins: AB23 GND (power)
part 45 pins: AB24 GND (power)
part 46 pins: AC3 GND (power)
part 47 pins: AC8 GND (power)
part 48 pins: AC24 GND (power)
part 49 pins: AD13 GND (power)
part 50 pins: AD18 GND (power)
part 51 pins: AE2 GND (power)
part 52 pins: AE25 GND (power)
part 53 pins: AF2 GND (power)
part 54 pins: AF25 GND (power)
part 55 pins: A2 GND (power)
part 56 pins: A25 GND (power)
part 57 pins: B2 GND (power)
part 58 pins: B25 GND (power)
part 59 pins: C3 GND (power)
part 60 pins: C10 GND (power)
part 61 pins: C24 GND (power)
part 62 pins: D3 GND (power)
part 63 pins: D4 GND (power)
part 64 pins: D19 GND (power)
part 65 pins: D23 GND (power)
part 66 pins: D24 GND (power)
part 67 pins: E4 GND (power)
part 68 pins: E23 GND (power)
part 69 pins: G23 GND (power)
part 70 pins: J5 GND (power)
part 71 pins: J23 GND (power)
part 72 pins: K4 GND (power)
part 73 pins: K10 GND (power)
part 74 pins: K17 GND (power)
part 75 pins: L11 GND (power)
part 76 pins: L16 GND (power)
part 77 pins: L22 GND (power)
part 78 pins: M5 GND (power)
part 79 pins: M12 GND (power)
part 80 pins: M14 GND (power)
part 81 pins: M15 GND (power)
part 82 pins: N13 GND (power)
part 83 pins: N14 GND (power)
part 84 pins: P13 GND (power)
part 85 pins: P14 GND (power)
part 86 pins: P22 GND (power)
part 87 pins: R12 GND (power)
part 88 pins: R15 GND (power)
part 89 pins: T11 GND (power)
part 90 pins: T16 GND (power)
part 91 pins: U10 GND (power)
part 92 pins: U17 GND (power)
part 93 pins: U24 GND (power)
part 94 pins: V3 GND (power)
part 95 pins: Y5 GND (power)
part 96 pins: AE4 NC
part 97 pins: AE5 NC
part 98 pins: AE6 NC
part 99 pins: AE7 NC
part 100 pins: AE8 NC
part 101 pins: AE9 NC
part 102 pins: AE10 NC
part 103 pins: AE11 NC
part 104 pins: AE12 NC
part 105 pins: AE14 NC
part 106 pins: AE15 NC
part 107 pins: AE16 NC
part 108 pins: AE17 NC
part 109 pins: AE19 NC
part 110 pins: AE20 NC
part 111 pins: AE21 NC
part 112 pins: AE22 NC
part 113 pins: AE23 NC
part 114 pins: AF4 NC
part 115 pins: AF5 NC
part 116 pins: AF6 NC
part 117 pins: AF7 NC
part 118 pins: AF8 NC
part 119 pins: AF9 NC
part 120 pins: AF10 NC
part 121 pins: AF12 NC
part 122 pins: AF13 NC
part 123 pins: AF14 NC
part 124 pins: AF15 NC
part 125 pins: AF16 NC
part 126 pins: AF18 NC
part 127 pins: AF20 NC
part 128 pins: AF21 NC
part 129 pins: AF23 NC
part 130 pins: AF24 NC
part 131 pins: A4 NC
part 132 pins: A5 NC
part 133 pins: A6 NC
part 134 pins: A10 NC
part 135 pins: A11 NC
part 136 pins: A12 NC
part 137 pins: A13 NC
part 138 pins: A14 NC
part 139 pins: A15 NC
part 140 pins: A16 NC
part 141 pins: A17 NC
part 142 pins: A18 NC
part 143 pins: A19 NC
part 144 pins: A20 NC
part 145 pins: A21 NC
part 146 pins: A22 NC
part 147 pins: A23 NC
part 148 pins: A24 NC
part 149 pins: B4 NC
part 150 pins: B5 NC
part 151 pins: B6 NC
part 152 pins: B7 NC
part 153 pins: B8 NC
part 154 pins: B9 NC
part 155 pins: B10 NC
part 156 pins: B11 NC
part 157 pins: B12 NC
part 158 pins: B13 NC
part 159 pins: B16 NC
part 160 pins: B19 NC
part 161 pins: B20 NC
part 162 pins: B21 NC
part 163 pins: B22 NC
part 164 pins: B23 NC
part 165 pins: B24 NC
part 166 pins: C1 NC
part 167 pins: AA23 VCC (power)
part 168 pins: AB10 VCC (power)
part 169 pins: AC14 VCC (power)
part 170 pins: E13 VCC (power)
part 171 pins: E17 VCC (power)
part 172 pins: H2 VCC (power)
part 173 pins: H25 VCC (power)
part 174 pins: K16 VCC (power)
part 175 pins: L10 VCC (power)
part 176 pins: L12 VCC (power)
part 177 pins: L14 VCC (power)
part 178 pins: L17 VCC (power)
part 179 pins: M2 VCC (power)
part 180 pins: M25 VCC (power)
part 181 pins: N11 VCC (power)
part 182 pins: N12 VCC (power)
part 183 pins: N15 VCC (power)
part 184 pins: P12 VCC (power)
part 185 pins: P15 VCC (power)
part 186 pins: P16 VCC (power)
part 187 pins: R14 VCC (power)
part 188 pins: T2 VCC (power)
part 189 pins: T10 VCC (power)
part 190 pins: T12 VCC (power)
part 191 pins: T17 VCC (power)
part 192 pins: T25 VCC (power)
part 193 pins: U16 VCC (power)
part 194 pins: Y7 VCC (power)
part 195 pins: AA26 VCCIO (power)
part 196 pins: AD15 VCCIO (power)
part 197 pins: C8 VCCIO (power)
part 198 pins: C15 VCCIO (power)
part 199 pins: D7 VCCIO (power)
part 200 pins: G3 VCCIO (power)
part 201 pins: J3 VCCIO (power)
part 202 pins: J17 VCCIO (power)
part 203 pins: K11 VCCIO (power)
part 204 pins: K22 VCCIO (power)
part 205 pins: L13 VCCIO (power)
part 206 pins: L15 VCCIO (power)
part 207 pins: M11 VCCIO (power)
part 208 pins: M13 VCCIO (power)
part 209 pins: M16 VCCIO (power)
part 210 pins: M22 VCCIO (power)
part 211 pins: N16 VCCIO (power)
part 212 pins: P11 VCCIO (power)
part 213 pins: R5 VCCIO (power)
part 214 pins: R11 VCCIO (power)
part 215 pins: R13 VCCIO (power)
part 216 pins: R16 VCCIO (power)
part 217 pins: R22 VCCIO (power)
part 218 pins: T15 VCCIO (power)
part 219 pins: U3 VCCIO (power)
part 220 pins: U11 VCCIO (power)
part 221 pins: V5 VCCIO (power)
part 222 pins: V17 VCCIO (power)
part 223 pins: V24 VCCIO (power)
part 224 pins: Y2 VCCIO (power)
part 225 pins: Y24 VCCIO (power)

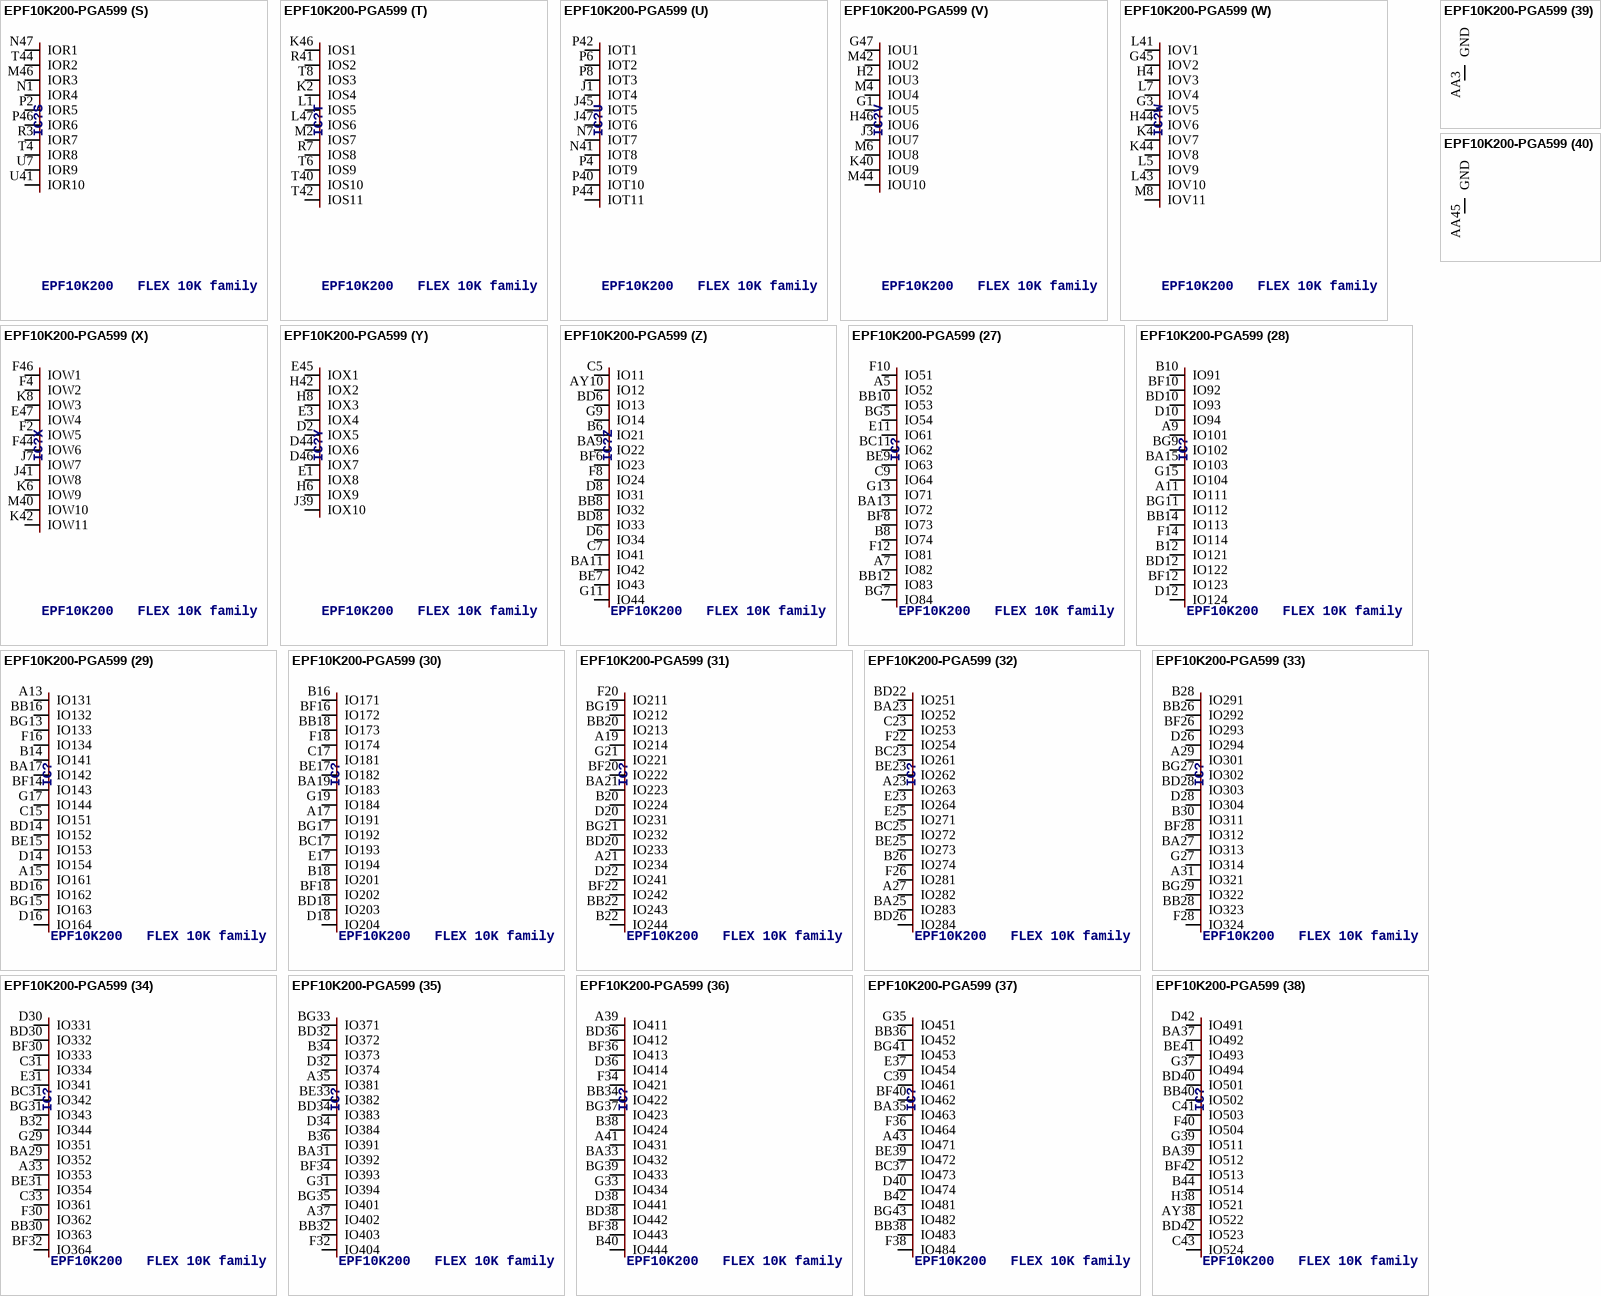
[diagram p33: symbol EPF10K200-PGA599]

## EPF10K200-PGA599
designator IC?, comment EPF10K200   FLEX 10K family
OC_FARNELL: unknown; OC_NEWARK: unknown
footprint PGA599
part A pins: A25 GCLK1, B4 /CONFIG, B24 IN1, B46 TRST, BB6 /CE, BB42 TDO, BC5 DATA0, BC43 CONF_DONE, BE5 DCLK, BE43 TCK, BF4 TDI, BF24 GCLK, BF44 /CEO, BG23 IN2, BG25 IN3, C3 MSEL1, C25 IN0, E43 /STATUS, F6 MSEL0, F42 TMS, W3 VCC_CKLK
part B pins: AW9 IOA4, AW39 IOA1, AY4 IOA5, AY6 IOA6, AY42 IOA3, AY44 IOA7, BC3 IOA8, BC45 IOA9, BD4 IOA10, BF2 IOA11, BF46 IOA2
part C pins: AV6 IOB5, AV8 IOB3, AV40 IOB6, AV42 IOB7, AW7 IOB8, AW41 IOB2, BB4 IOB4, BB44 IOB1, BB46 IOB9, BD2 IOB10, BD46 IOB11
part D pins: AT8 IOC3, AT40 IOC2, AU7 IOC5, AU41 IOC6, AV4 IOC4, AV44 IOC1, BA3 IOC7, BA45 IOC8, BB2 IOC9, BC47 IOC10
part E pins: AT4 IOD3, AT6 IOD5, AT42 IOD6, AT44 IOD2, AU5 IOD7, AU43 IOD8, AW3 IOD9, AW45 IOD1, AY2 IOD4, AY46 IOD10, BC1 IOD11
part F pins: AP4 IOE3, AP6 IOE4, AP8 IOE5, AP40 IOE6, AP42 IOE1, AP44 IOE7, AR7 IOE8, AR41 IOE9, AW47 IOE10, BA1 IOE2, BA47 IOE11
part G pins: AM8 IOF3, AM40 IOF4, AN7 IOF5, AN41 IOF1, AT46 IOF6, AU1 IOF7, AU47 IOF2, AV2 IOF8, AV46 IOF9, AW1 IOF10
part H pins: AL7 IOG3, AL41 IOG4, AM4 IOG2, AM6 IOG5, AM42 IOG6, AM44 IOG1, AP2 IOG7, AP46 IOG8, AR1 IOG9, AR47 IOG10, AT2 IOG11
part I pins: AK4 IOH4, AK6 IOH1, AK8 IOH2, AK40 IOH5, AK42 IOH6, AK44 IOH7, AL5 IOH3, AL43 IOH8, AN3 IOH9, AN45 IOH10, AN47 IOH11
part J pins: AH8 IOI3, AH40 IOI4, AJ7 IOI5, AJ41 IOI2, AL3 IOI6, AL45 IOI7, AL47 IOI8, AM2 IOI9, AM46 IOI10, AN1 IOI11
part K pins: AG7 IOJ5, AG41 IOJ6, AH4 IOJ3, AH6 IOJ7, AH42 IOJ1, AH44 IOJ8, AJ1 IOJ9, AJ47 IOJ10, AK2 IOJ4, AK46 IOJ11, AL1 IOJ12
part L pins: AF4 IOK3, AF6 IOK5, AF8 IOK6, AF40 IOK7, AF42 IOK2, AF44 IOK8, AF46 IOK9, AG1 IOK4, AG47 IOK1, AH2 IOK10, AH46 IOK11
part M pins: AD46 IOL4, AE1 IOL3, AE3 IOL5, AE5 IOL6, AE7 IOL7, AE41 IOL8, AE43 IOL2, AE45 IOL9, AE47 IOL1, AF2 IOL10
part N pins: AC1 IOM4, AC3 IOM3, AC5 IOM5, AC7 IOM6, AC41 IOM7, AC43 IOM2, AC45 IOM1, AC47 IOM8, AD2 IOM9, AD8 IOM10, AD40 IOM11
part O pins: AA1 ION5, AA47 ION6, AB2 ION4, AB4 ION7, AB6 ION8, AB8 ION3, AB40 ION2, AB42 ION9, AB44 ION1, AB46 ION10, Y46 ION11
part P pins: AA7 IOO4, AA41 IOO1, U47 IOO5, V2 IOO6, V46 IOO7, W1 IOO3, W47 IOO8, Y2 IOO9, Y4 IOO2, Y44 IOO10
part Q pins: T2 IOP4, T46 IOP5, U1 IOP6, U3 IOP2, U45 IOP1, W7 IOP7, W41 IOP8, Y6 IOP3, Y8 IOP9, Y40 IOP10, Y42 IOP11
part R pins: R1 IOQ2, R45 IOQ4, R47 IOQ5, U5 IOQ6, U43 IOQ7, V4 IOQ8, V6 IOQ3, V8 IOQ9, V40 IOQ10, V42 IOQ1, V44 IOQ11
part S pins: M46 IOR3, N1 IOR4, N47 IOR1, P2 IOR5, P46 IOR6, R3 IOR7, T4 IOR8, T44 IOR2, U7 IOR9, U41 IOR10
part T pins: K2 IOS4, K46 IOS1, L1 IOS5, L47 IOS6, M2 IOS7, R7 IOS8, R41 IOS2, T6 IOS9, T8 IOS3, T40 IOS10, T42 IOS11
part U pins: J1 IOT4, J45 IOT5, J47 IOT6, N7 IOT7, N41 IOT8, P4 IOT9, P6 IOT2, P8 IOT3, P40 IOT10, P42 IOT1, P44 IOT11
part V pins: G1 IOU5, G47 IOU1, H2 IOU3, H46 IOU6, J3 IOU7, K40 IOU9, M4 IOU4, M6 IOU8, M42 IOU2, M44 IOU10
part W pins: G3 IOV5, G45 IOV2, H4 IOV3, H44 IOV6, K4 IOV7, K44 IOV8, L5 IOV9, L7 IOV4, L41 IOV1, L43 IOV10, M8 IOV11
part X pins: E47 IOW4, F2 IOW5, F4 IOW2, F44 IOW6, F46 IOW1, J7 IOW7, J41 IOW8, K6 IOW9, K8 IOW3, K42 IOW11, M40 IOW10
part Y pins: D2 IOX5, D44 IOX6, D46 IOX7, E1 IOX8, E3 IOX4, E45 IOX1, H6 IOX9, H8 IOX3, H42 IOX2, J39 IOX10
part Z pins: AY10 IO12, B6 IO21, BA9 IO22, BA11 IO42, BB8 IO32, BD6 IO13, BD8 IO33, BE7 IO43, BF6 IO23, C5 IO11, C7 IO41, D6 IO34, D8 IO31, F8 IO24, G9 IO14, G11 IO44
part 27 pins: A5 IO52, A7 IO82, B8 IO74, BA13 IO72, BB10 IO53, BB12 IO83, BC11 IO62, BE9 IO63, BF8 IO73, BG5 IO54, BG7 IO84, C9 IO64, E11 IO61, F10 IO51, F12 IO81, G13 IO71
part 28 pins: A9 IO101, A11 IO111, B10 IO91, B12 IO121, BA15 IO103, BB14 IO113, BD10 IO93, BD12 IO122, BF10 IO92, BF12 IO123, BG9 IO102, BG11 IO112, D10 IO94, D12 IO124, F14 IO114, G15 IO104
part 29 pins: A13 IO131, A15 IO161, B14 IO141, BA17 IO142, BB16 IO132, BD14 IO152, BD16 IO162, BE15 IO153, BF14 IO143, BG13 IO133, BG15 IO163, C15 IO151, D14 IO154, D16 IO164, F16 IO134, G17 IO144
part 30 pins: A17 IO191, B16 IO171, B18 IO201, BA19 IO183, BB18 IO173, BC17 IO193, BD18 IO203, BE17 IO182, BF16 IO172, BF18 IO202, BG17 IO192, C17 IO181, D18 IO204, E17 IO194, F18 IO174, G19 IO184
part 31 pins: A19 IO214, A21 IO234, B20 IO224, B22 IO244, BA21 IO223, BB20 IO213, BB22 IO243, BD20 IO233, BF20 IO222, BF22 IO242, BG19 IO212, BG21 IO232, D20 IO231, D22 IO241, F20 IO211, G21 IO221
part 32 pins: A23 IO263, A27 IO282, B26 IO274, BA23 IO252, BA25 IO283, BC23 IO261, BC25 IO272, BD22 IO251, BD26 IO284, BE23 IO262, BE25 IO273, C23 IO253, E23 IO264, E25 IO271, F22 IO254, F26 IO281
part 33 pins: A29 IO301, A31 IO321, B28 IO291, B30 IO311, BA27 IO313, BB26 IO292, BB28 IO323, BD28 IO303, BF26 IO293, BF28 IO312, BG27 IO302, BG29 IO322, D26 IO294, D28 IO304, F28 IO324, G27 IO314
part 34 pins: A33 IO353, B32 IO344, BA29 IO352, BB30 IO363, BC31 IO342, BD30 IO332, BE31 IO354, BF30 IO333, BF32 IO364, BG31 IO343, C31 IO334, C33 IO361, D30 IO331, E31 IO341, F30 IO362, G29 IO351
part 35 pins: A35 IO381, A37 IO402, B34 IO373, B36 IO391, BA31 IO392, BB32 IO403, BD32 IO372, BD34 IO383, BE33 IO382, BF34 IO393, BG33 IO371, BG35 IO401, D32 IO374, D34 IO384, F32 IO404, G31 IO394
part 36 pins: A39 IO411, A41 IO431, B38 IO424, B40 IO444, BA33 IO432, BB34 IO422, BD36 IO412, BD38 IO442, BF36 IO413, BF38 IO443, BG37 IO423, BG39 IO433, D36 IO414, D38 IO441, F34 IO421, G33 IO434
part 37 pins: A43 IO471, B42 IO481, BA35 IO463, BB36 IO452, BB38 IO483, BC37 IO473, BE39 IO472, BF40 IO462, BG41 IO453, BG43 IO482, C39 IO461, D40 IO474, E37 IO454, F36 IO464, F38 IO484, G35 IO451
part 38 pins: AY38 IO522, B44 IO514, BA37 IO492, BA39 IO512, BB40 IO502, BD40 IO501, BD42 IO523, BE41 IO493, BF42 IO513, C41 IO503, C43 IO524, D42 IO491, F40 IO504, G37 IO494, G39 IO511, H38 IO521
part 39 pins: AA3 GND (power)
part 40 pins: AA45 GND (power)
part 41 pins: AD6 GND (power)
part 42 pins: AD42 GND (power)
part 43 pins: AG3 GND (power)
part 44 pins: AG45 GND (power)
part 45 pins: AJ5 GND (power)
part 46 pins: AJ43 GND (power)
part 47 pins: AR3 GND (power)
part 48 pins: AR5 GND (power)
part 49 pins: AR43 GND (power)
part 50 pins: AR45 GND (power)
part 51 pins: AY8 GND (power)
part 52 pins: AY40 GND (power)
part 53 pins: A47 GND (power)
part 54 pins: BA5 GND (power)
part 55 pins: BA43 GND (power)
part 56 pins: BB24 GND (power)
part 57 pins: BC7 GND (power)
part 58 pins: BC13 GND (power)
part 59 pins: BC19 GND (power)
part 60 pins: BC29 GND (power)
part 61 pins: BC35 GND (power)
part 62 pins: BC41 GND (power)
part 63 pins: BD44 GND (power)
part 64 pins: BE3 GND (power)
part 65 pins: BE13 GND (power)
part 66 pins: BE21 GND (power)
part 67 pins: BE27 GND (power)
part 68 pins: BE35 GND (power)
part 69 pins: BE45 GND (power)
part 70 pins: BG1 GND (power)
part 71 pins: BG47 GND (power)
part 72 pins: B2 GND (power)
part 73 pins: C13 GND (power)
part 74 pins: C21 GND (power)
part 75 pins: C27 GND (power)
part 76 pins: C35 GND (power)
part 77 pins: C45 GND (power)
part 78 pins: D4 GND (power)
part 79 pins: E7 GND (power)
part 80 pins: E13 GND (power)
part 81 pins: E19 GND (power)
part 82 pins: E29 GND (power)
part 83 pins: E35 GND (power)
part 84 pins: E41 GND (power)
part 85 pins: F24 GND (power)
part 86 pins: G5 GND (power)
part 87 pins: G23 GND (power)
part 88 pins: G43 GND (power)
part 89 pins: H40 GND (power)
part 90 pins: N3 GND (power)
part 91 pins: N5 GND (power)
part 92 pins: N43 GND (power)
part 93 pins: N45 GND (power)
part 94 pins: W5 GND (power)
part 95 pins: W43 GND (power)
part 96 pins: AJ3 VCC (power)
part 97 pins: AJ45 VCC (power)
part 98 pins: AU3 VCC (power)
part 99 pins: AU45 VCC (power)
part 100 pins: A3 VCC (power)
part 101 pins: A45 VCC (power)
part 102 pins: BE1 VCC (power)
part 103 pins: BE11 VCC (power)
part 104 pins: BE19 VCC (power)
part 105 pins: BE29 VCC (power)
part 106 pins: BE37 VCC (power)
part 107 pins: BE47 VCC (power)
part 108 pins: BG3 VCC (power)
part 109 pins: BG45 VCC (power)
part 110 pins: C1 VCC (power)
part 111 pins: C11 VCC (power)
part 112 pins: C19 VCC (power)
part 113 pins: C29 VCC (power)
part 114 pins: C37 VCC (power)
part 115 pins: C47 VCC (power)
part 116 pins: E5 VCC (power)
part 117 pins: G25 VCC (power)
part 118 pins: L3 VCC (power)
part 119 pins: L45 VCC (power)
part 120 pins: W45 VCC (power)
part 121 pins: AA5 VCCIO (power)
part 122 pins: AA43 VCCIO (power)
part 123 pins: AD4 VCCIO (power)
part 124 pins: AD44 VCCIO (power)
part 125 pins: AG5 VCCIO (power)
part 126 pins: AG43 VCCIO (power)
part 127 pins: AN5 VCCIO (power)
part 128 pins: AN43 VCCIO (power)
part 129 pins: AW5 VCCIO (power)
part 130 pins: AW43 VCCIO (power)
part 131 pins: BA7 VCCIO (power)
part 132 pins: BA41 VCCIO (power)
part 133 pins: BC9 VCCIO (power)
part 134 pins: BC15 VCCIO (power)
part 135 pins: BC21 VCCIO (power)
part 136 pins: BC27 VCCIO (power)
part 137 pins: BC33 VCCIO (power)
part 138 pins: BC39 VCCIO (power)
part 139 pins: BD24 VCCIO (power)
part 140 pins: D24 VCCIO (power)
part 141 pins: E9 VCCIO (power)
part 142 pins: E15 VCCIO (power)
part 143 pins: E21 VCCIO (power)
part 144 pins: E27 VCCIO (power)
part 145 pins: E33 VCCIO (power)
part 146 pins: E39 VCCIO (power)
part 147 pins: G7 VCCIO (power)
part 148 pins: G41 VCCIO (power)
part 149 pins: J5 VCCIO (power)
part 150 pins: J43 VCCIO (power)
part 151 pins: R5 VCCIO (power)
part 152 pins: R43 VCCIO (power)

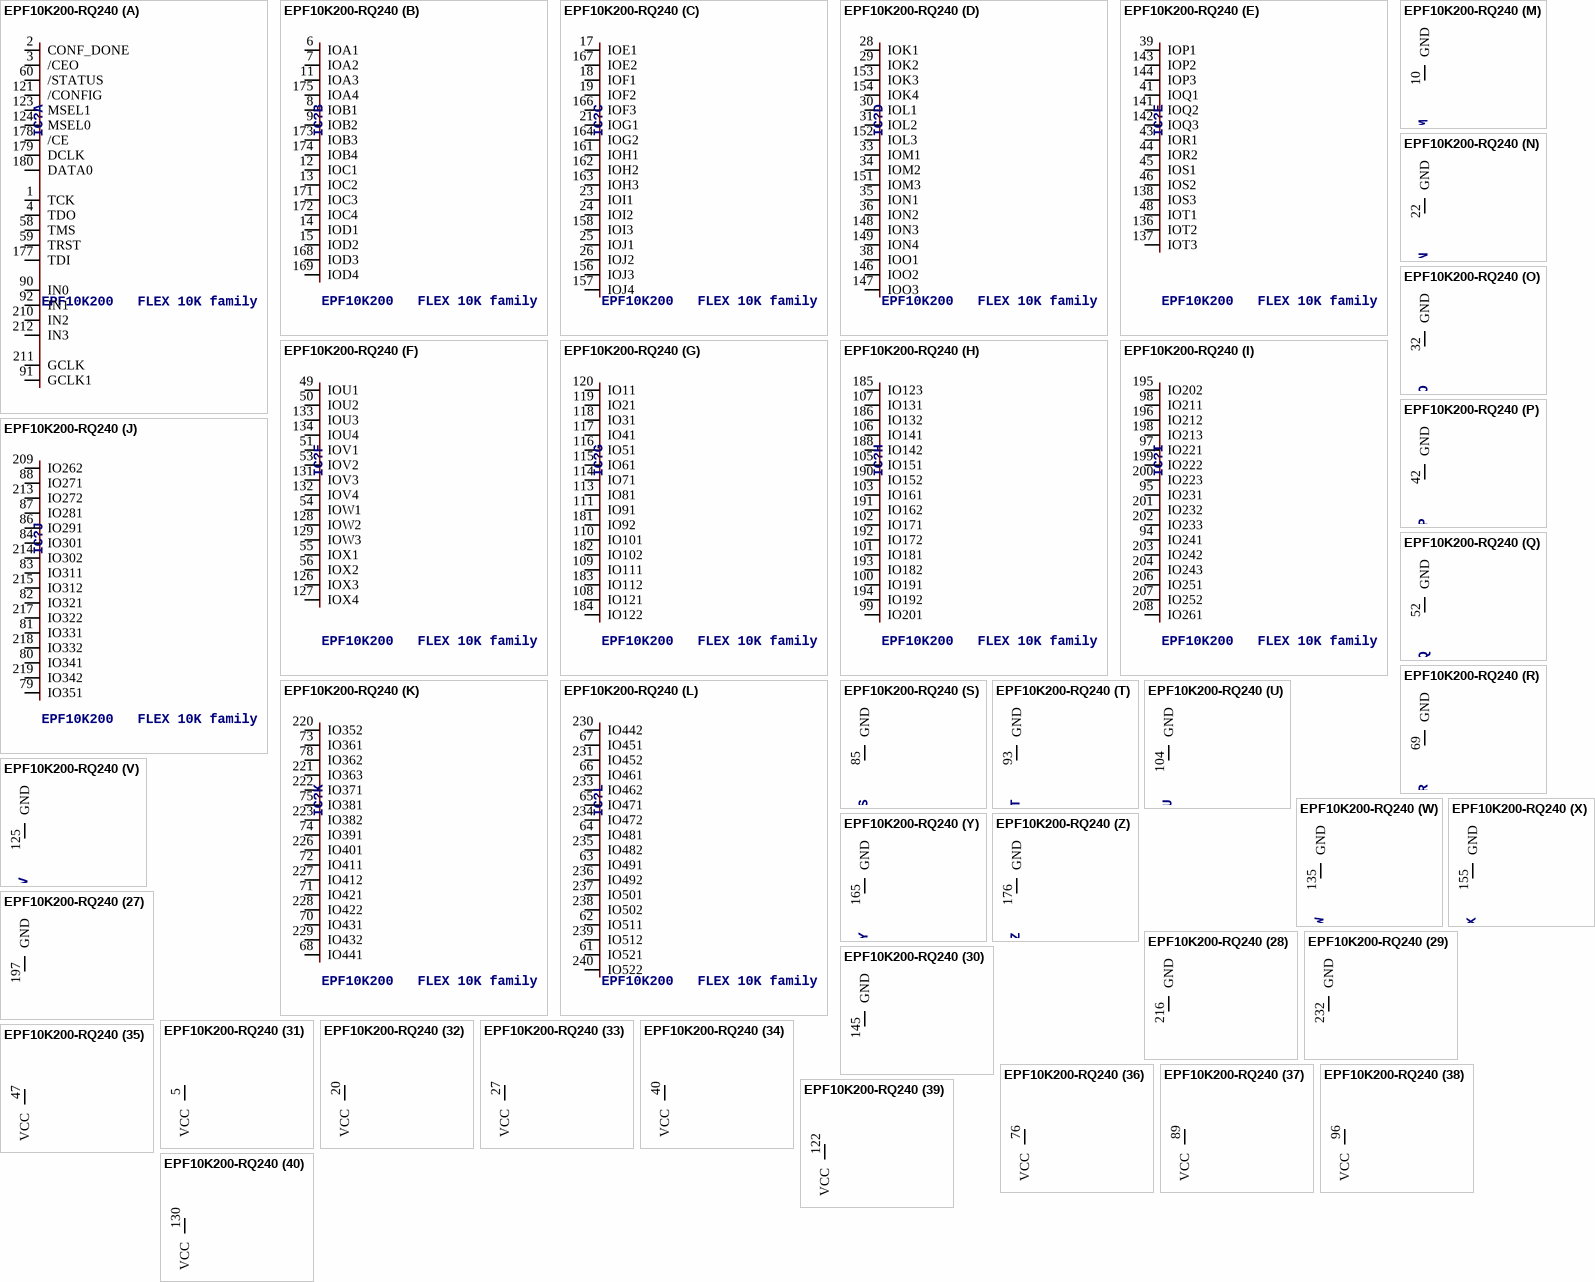
[diagram p34: symbol EPF10K200-RQ240]

## EPF10K200-RQ240
designator IC?, comment EPF10K200   FLEX 10K family
MPN: EPF10K200SRC240-3N; OC_FARNELL: unknown; OC_NEWARK: 51R8934
footprint RQFP240
part A pins: 1 TCK, 2 CONF_DONE, 3 /CEO, 4 TDO, 58 TMS, 59 TRST, 60 /STATUS, 90 IN0, 91 GCLK1, 92 IN1, 121 /CONFIG, 123 MSEL1, 124 MSEL0, 177 TDI, 178 /CE, 179 DCLK, 180 DATA0, 210 IN2, 211 GCLK, 212 IN3
part B pins: 6 IOA1, 7 IOA2, 8 IOB1, 9 IOB2, 11 IOA3, 12 IOC1, 13 IOC2, 14 IOD1, 15 IOD2, 168 IOD3, 169 IOD4, 171 IOC3, 172 IOC4, 173 IOB3, 174 IOB4, 175 IOA4
part C pins: 17 IOE1, 18 IOF1, 19 IOF2, 21 IOG1, 23 IOI1, 24 IOI2, 25 IOJ1, 26 IOJ2, 156 IOJ3, 157 IOJ4, 158 IOI3, 161 IOH1, 162 IOH2, 163 IOH3, 164 IOG2, 166 IOF3, 167 IOE2
part D pins: 28 IOK1, 29 IOK2, 30 IOL1, 31 IOL2, 33 IOM1, 34 IOM2, 35 ION1, 36 ION2, 38 IOO1, 146 IOO2, 147 IOO3, 148 ION3, 149 ION4, 151 IOM3, 152 IOL3, 153 IOK3, 154 IOK4
part E pins: 39 IOP1, 41 IOQ1, 43 IOR1, 44 IOR2, 45 IOS1, 46 IOS2, 48 IOT1, 136 IOT2, 137 IOT3, 138 IOS3, 141 IOQ2, 142 IOQ3, 143 IOP2, 144 IOP3
part F pins: 49 IOU1, 50 IOU2, 51 IOV1, 53 IOV2, 54 IOW1, 55 IOX1, 56 IOX2, 126 IOX3, 127 IOX4, 128 IOW2, 129 IOW3, 131 IOV3, 132 IOV4, 133 IOU3, 134 IOU4
part G pins: 108 IO121, 109 IO111, 110 IO101, 111 IO91, 113 IO81, 114 IO71, 115 IO61, 116 IO51, 117 IO41, 118 IO31, 119 IO21, 120 IO11, 181 IO92, 182 IO102, 183 IO112, 184 IO122
part H pins: 99 IO201, 100 IO191, 101 IO181, 102 IO171, 103 IO161, 105 IO151, 106 IO141, 107 IO131, 185 IO123, 186 IO132, 188 IO142, 190 IO152, 191 IO162, 192 IO172, 193 IO182, 194 IO192
part I pins: 94 IO241, 95 IO231, 97 IO221, 98 IO211, 195 IO202, 196 IO212, 198 IO213, 199 IO222, 200 IO223, 201 IO232, 202 IO233, 203 IO242, 204 IO243, 206 IO251, 207 IO252, 208 IO261
part J pins: 79 IO351, 80 IO341, 81 IO331, 82 IO321, 83 IO311, 84 IO301, 86 IO291, 87 IO281, 88 IO271, 209 IO262, 213 IO272, 214 IO302, 215 IO312, 217 IO322, 218 IO332, 219 IO342
part K pins: 68 IO441, 70 IO431, 71 IO421, 72 IO411, 73 IO361, 74 IO391, 75 IO381, 78 IO362, 220 IO352, 221 IO363, 222 IO371, 223 IO382, 226 IO401, 227 IO412, 228 IO422, 229 IO432
part L pins: 61 IO521, 62 IO511, 63 IO491, 64 IO481, 65 IO471, 66 IO461, 67 IO451, 230 IO442, 231 IO452, 233 IO462, 234 IO472, 235 IO482, 236 IO492, 237 IO501, 238 IO502, 239 IO512, 240 IO522
part M pins: 10 GND (power)
part N pins: 22 GND (power)
part O pins: 32 GND (power)
part P pins: 42 GND (power)
part Q pins: 52 GND (power)
part R pins: 69 GND (power)
part S pins: 85 GND (power)
part T pins: 93 GND (power)
part U pins: 104 GND (power)
part V pins: 125 GND (power)
part W pins: 135 GND (power)
part X pins: 155 GND (power)
part Y pins: 165 GND (power)
part Z pins: 176 GND (power)
part 27 pins: 197 GND (power)
part 28 pins: 216 GND (power)
part 29 pins: 232 GND (power)
part 30 pins: 145 GND (power)
part 31 pins: 5 VCC (power)
part 32 pins: 20 VCC (power)
part 33 pins: 27 VCC (power)
part 34 pins: 40 VCC (power)
part 35 pins: 47 VCC (power)
part 36 pins: 76 VCC (power)
part 37 pins: 89 VCC (power)
part 38 pins: 96 VCC (power)
part 39 pins: 122 VCC (power)
part 40 pins: 130 VCC (power)
part 41 pins: 139 VCC (power)
part 42 pins: 150 VCC (power)
part 43 pins: 159 VCC (power)
part 44 pins: 170 VCC (power)
part 45 pins: 187 VCC (power)
part 46 pins: 225 VCC (power)
part 47 pins: 16 VCCIO (power)
part 48 pins: 37 VCCIO (power)
part 49 pins: 57 VCCIO (power)
part 50 pins: 77 VCCIO (power)
part 51 pins: 112 VCCIO (power)
part 52 pins: 140 VCCIO (power)
part 53 pins: 160 VCCIO (power)
part 54 pins: 189 VCCIO (power)
part 55 pins: 205 VCCIO (power)
part 56 pins: 224 VCCIO (power)

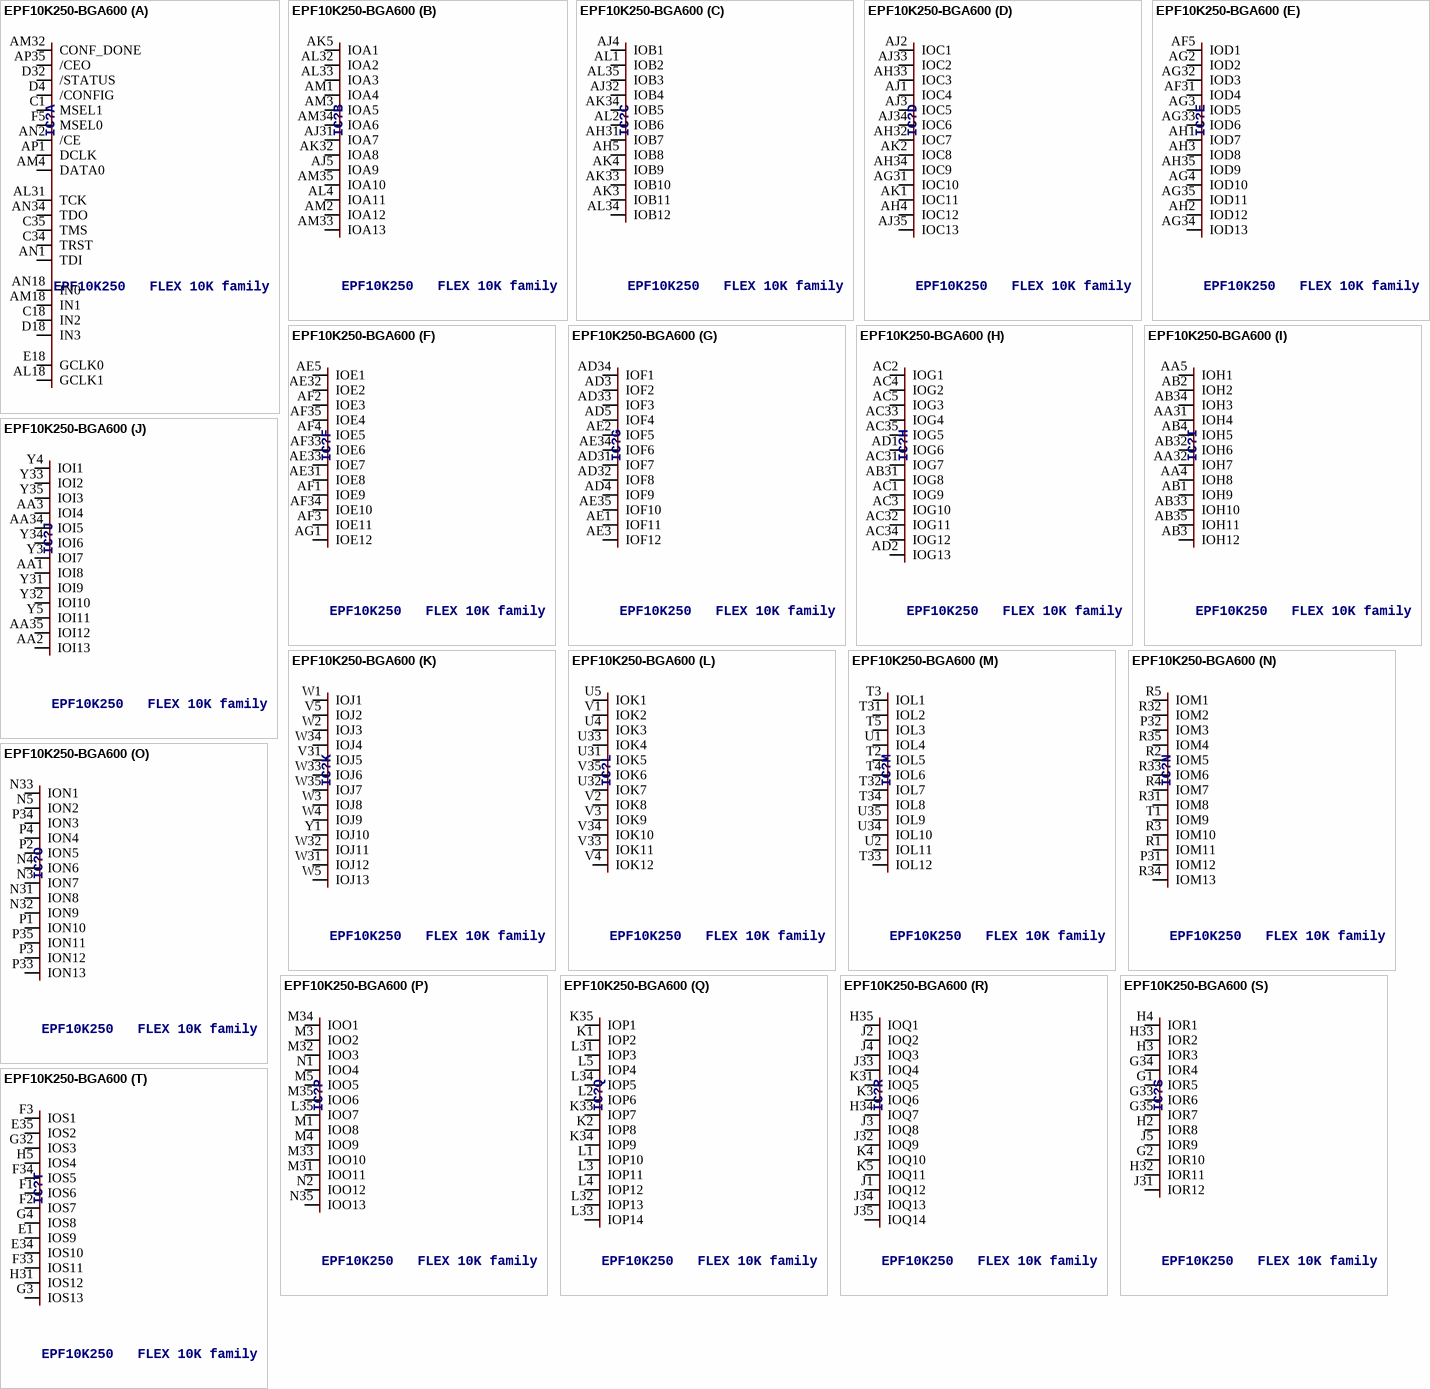
[diagram p35: symbol EPF10K250-BGA600]

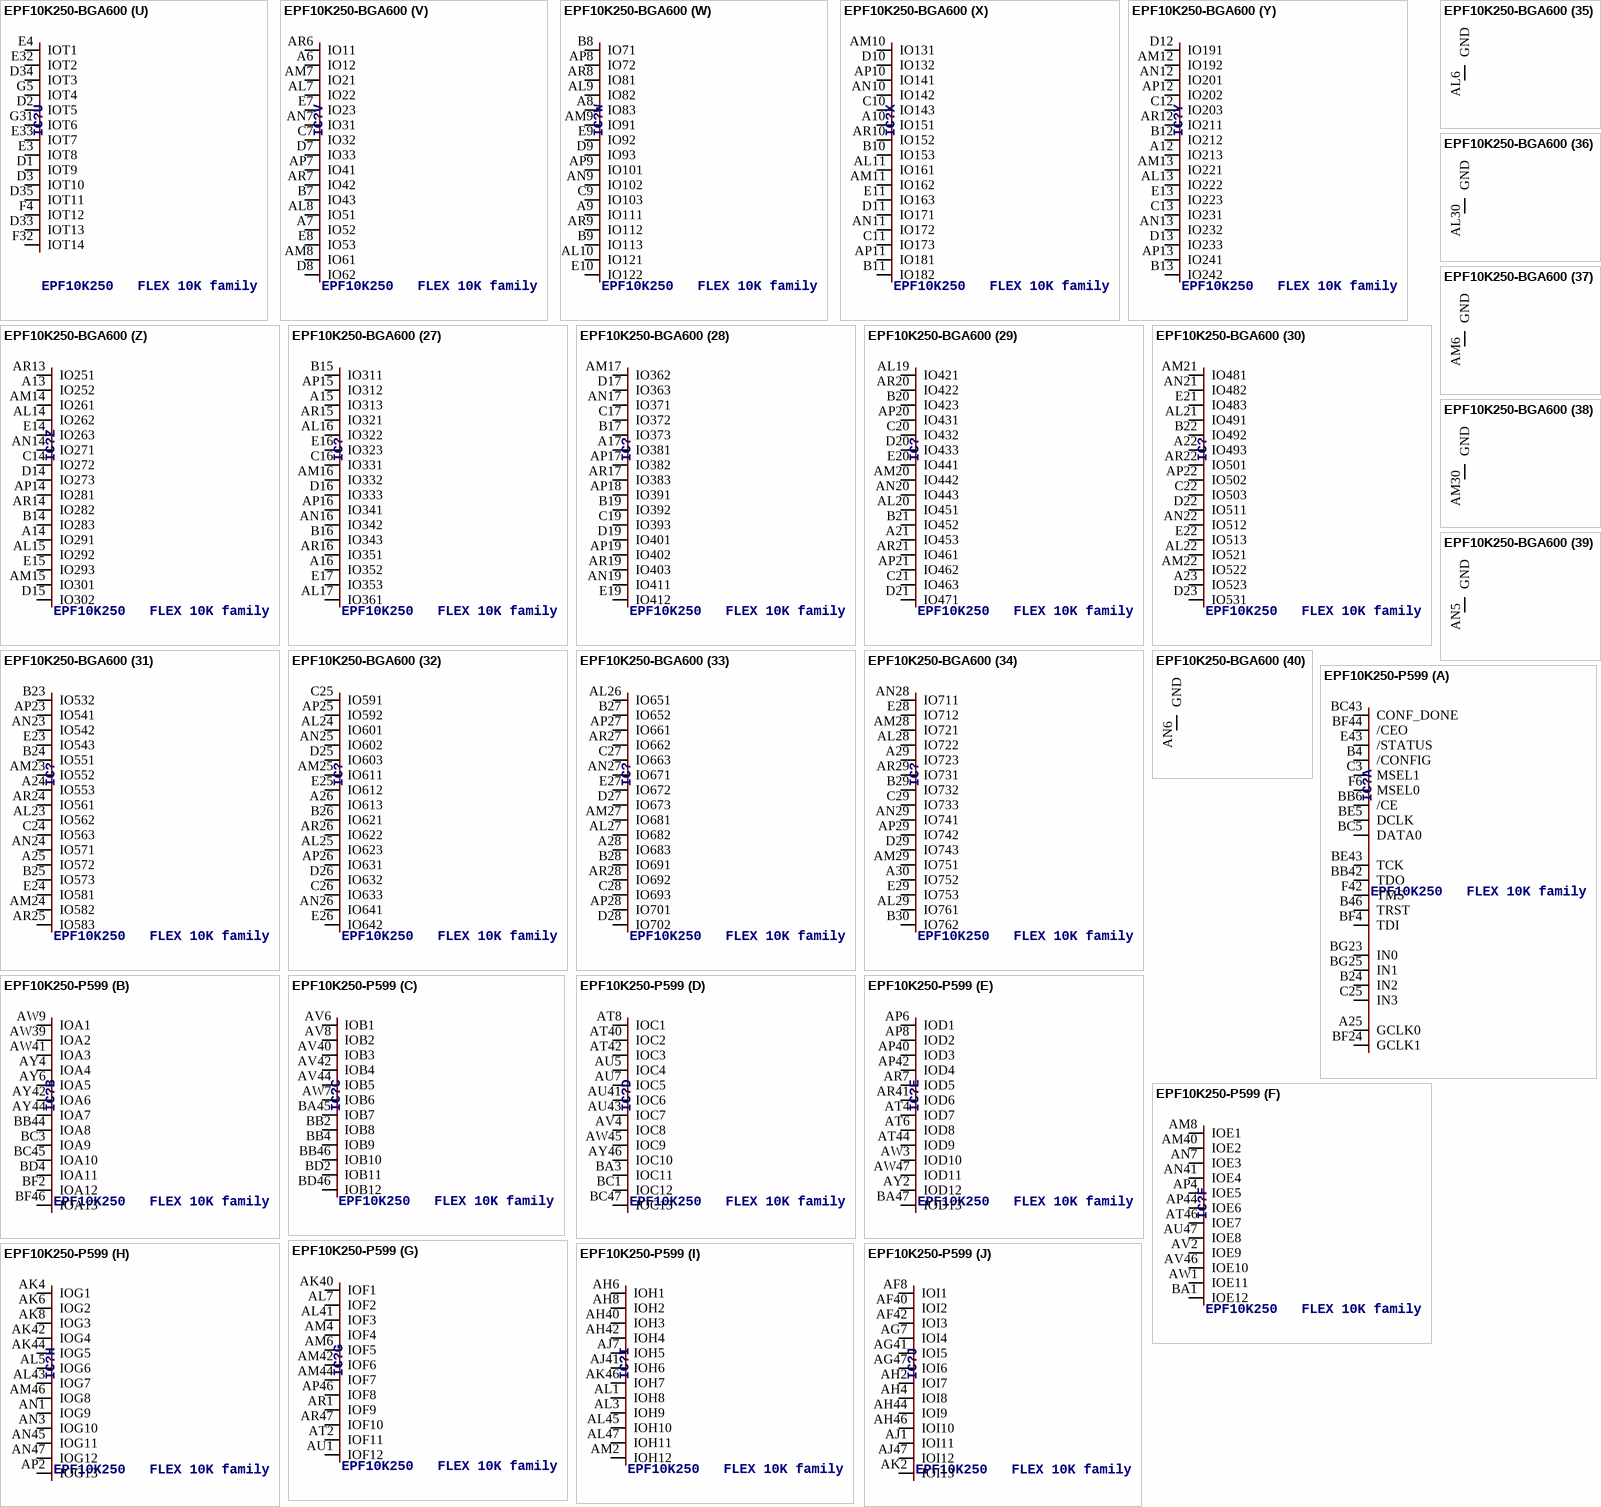
[diagram p36: symbols EPF10K250-BGA600 to EPF10K250-P599]